# Altium schematic symbol library Digital.SchLib: 68 symbols (part 1 of 2)
Pins are listed as number, name and electrical type; pins without a type are passive.

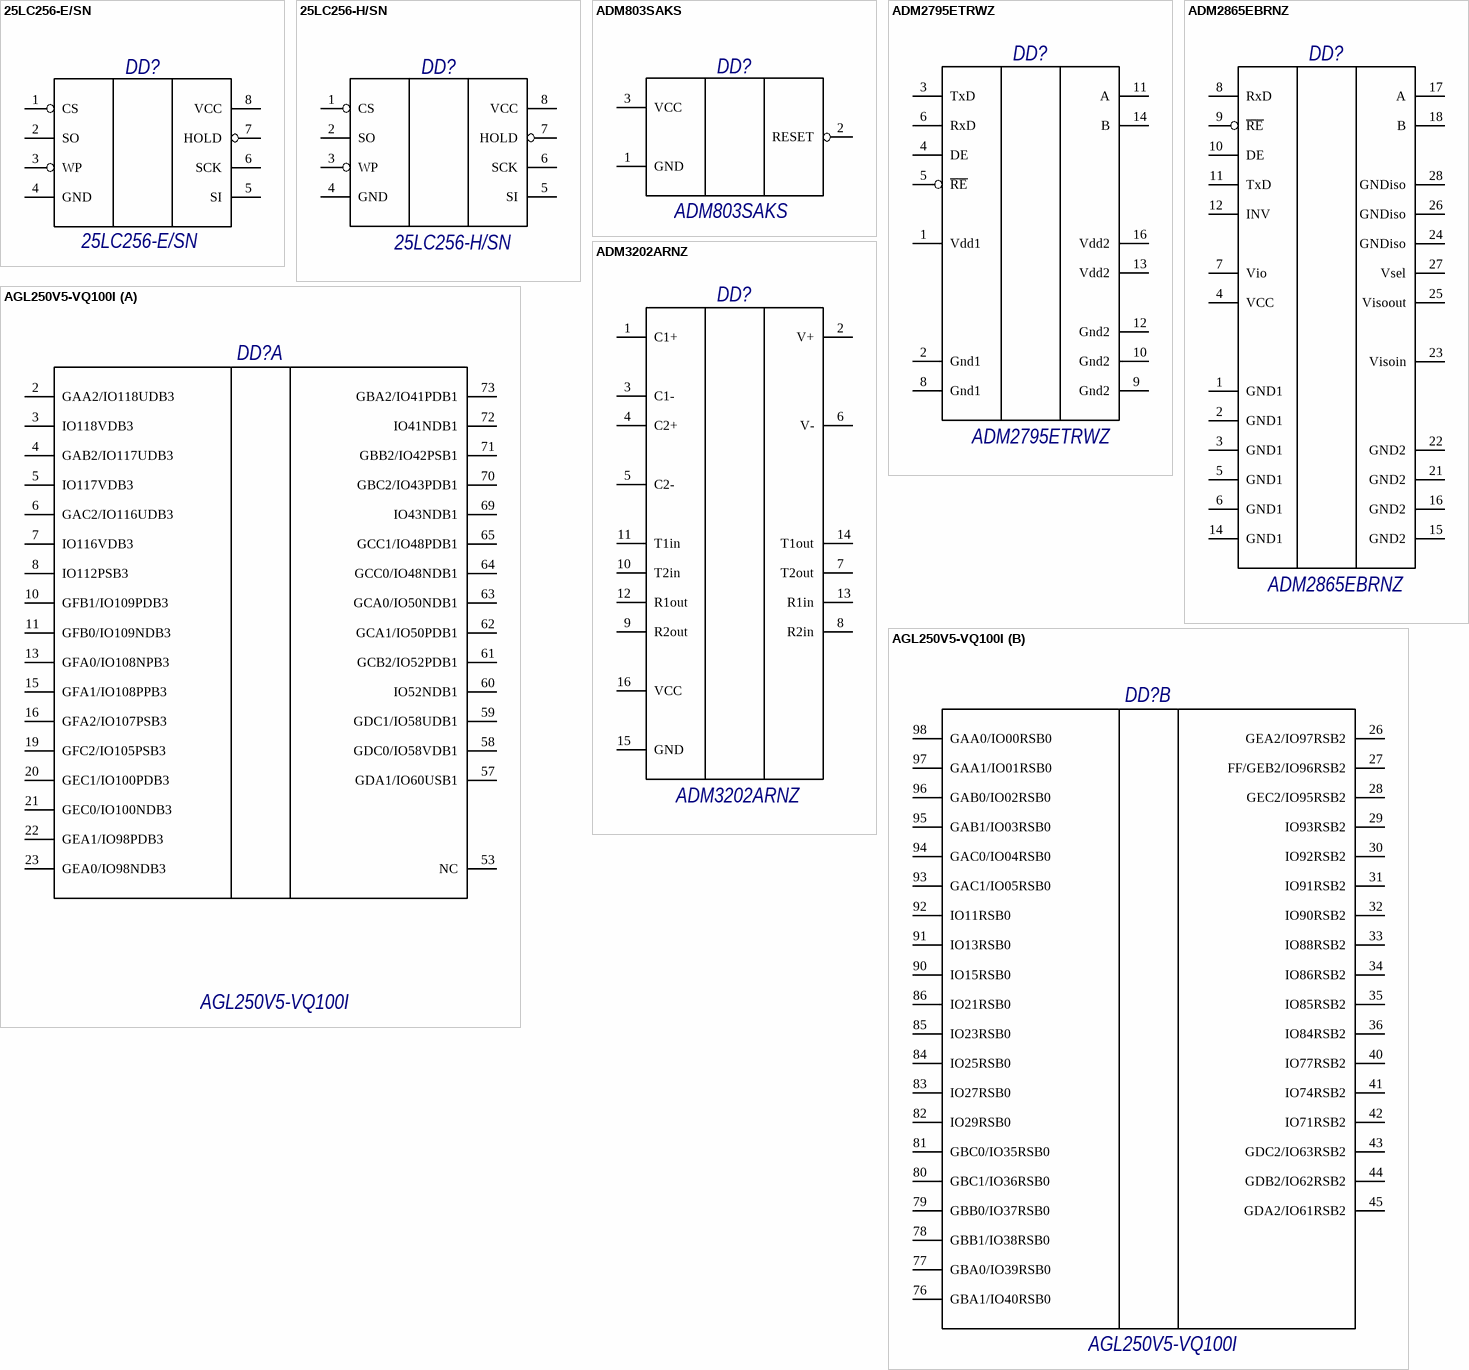
[diagram p0: symbols 25LC256-E/SN to AGL250V5-VQ100I]

## 25LC256-E/SN
designator DD?, comment PartNumber: 25LC256-E/SN  (hidden comment: Микросхема 25LC256-E/SN фирма "Microchip")
256K SPI™ Bus Serial EEPROM, 125 C, SO-8; GOST: Микросхема 25LC256-E/SN фирма "Microchip"
footprint SO-8 (5x4mm H=1.75mm)
pins: 1 CS, 2 SO, 3 WP, 4 GND, 5 SI, 6 SCK, 7 HOLD, 8 VCC

## 25LC256-H/SN
designator DD?, comment PartNumber: 25LC256-H/SN  (hidden comment: Микросхема 25LC256-H/SN фирма "Microchip")
EEPROM 256K, 32K X 8, 2.5V SER EE 150C; GOST: Микросхема 25LC256-H/SN фирма "Microchip"
footprint SO-8 (5x4mm H=1.75mm)
pins: 1 CS, 2 SO, 3 WP, 4 GND, 5 SI, 6 SCK, 7 HOLD, 8 VCC

## ADM803SAKS
designator DD?, comment PartNumber: ADM803SAKS  (hidden comment: Микросхема ADM803SAKS фирма "Analog Devices")
GOST: Микросхема ADM803SAKS фирма "Analog Devices"
footprint SC-70-3 (2.15x1.4x1.1)
pins: 1 GND, 2 RESET, 3 VCC

## ADM2795ETRWZ
designator DD?, comment PartNumber: ADM2795ETRWZ  (hidden comment: Микросхема ADM2795ETRWZ фирма "Analog Devices")
Robust 5 kV RMS Isolated RS-485/RS-422 Transceiver with Level 4 EMC and Full ±42 V Protection; Pattern: SOL-16; Manufacturer: Analog Devices; GOST: Микросхема ADM2795ETRWZ фирма "Analog Devices"
footprint SO-16 WIDE (10.5x10.65mm H=2.65mm 16-Lead Standard Small Outline Package [SOIC_W] Wide Body (RW-16 AD))
pins: 1 hidden, 1 Vdd1, 2 hidden, 2 Gnd1, 3 hidden, 3 TxD, 4 DE, 5 ~{RE}, 6 RxD, 8 Gnd1, 9 Gnd2, 10 Gnd2, 11 hidden, 11 A, 12 Gnd2, 13 Vdd2, 14 B, 16 Vdd2, 20 hidden, 21 hidden, 22 hidden, 23 hidden, 24 hidden, 26 hidden, 27 hidden, 28 hidden, 33 hidden, 38 hidden, 40 hidden, 45 hidden, 46 hidden, 47 hidden

## ADM2865EBRNZ
designator DD?, comment PartNumber: ADM2865EBRNZ  (hidden comment: Микросхема ADM2865EBRNZ фирма "Analog Devices")
5.7 kV RMS Signal andPower Isolated RS-485 Transceiver with ±15 kV IEC ESD; Pattern: 28-Lead SOIC_W_FP (RN-28-1); Manufacturer: Analog Devices; GOST: Микросхема ADM2865EBRNZ фирма "Analog Devices"
footprint SO-28_W_FP (10.45x10.55mm H=2.65mm  28-Lead Standard Small Outline, Wide Body, with Finer Pitch [SOIC_W_FP] (RN-28-1) AD)
pins: 1 hidden, 1 GND1, 2 hidden, 2 GND1, 3 hidden, 3 GND1, 4 VCC, 5 GND1, 6 GND1, 7 Vio, 8 RxD, 9 ~{RE}, 10 DE, 11 hidden, 11 TxD, 12 INV, 14 GND1, 15 GND2, 16 GND2, 17 A, 18 B, 20 hidden, 21 hidden, 21 GND2, 22 hidden, 22 GND2, 23 hidden, 23 Visoin, 24 hidden, 24 GNDiso, 25 Visoout, 26 hidden, 26 GNDiso, 27 hidden, 27 Vsel, 28 hidden, 28 GNDiso, 33 hidden, 38 hidden, 40 hidden, 45 hidden, 46 hidden, 47 hidden

## ADM3202ARNZ
designator DD?, comment PartNumber: ADM3202ARNZ  (hidden comment: Микросхема ADM3202ARNZ фирма "Analog Devices")
RS-232 High-Speed 2-Channel 3.3V; Pattern: SO-16; Manufacturer: Analog Devices; GOST: Микросхема ADM3202ARNZ фирма "Analog Devices"
footprint SO-16 (10x6.2mm H=1.75mm)
pins: 1 hidden, 1 C1+, 2 hidden, 2 V+, 3 hidden, 3 C1-, 4 C2+, 5 C2-, 6 V-, 7 T2out, 8 R2in, 9 R2out, 10 T2in, 11 hidden, 11 T1in, 12 R1out, 13 R1in, 14 T1out, 15 GND, 16 VCC, 20 hidden, 21 hidden, 22 hidden, 23 hidden, 24 hidden, 26 hidden, 27 hidden, 28 hidden, 33 hidden, 38 hidden, 40 hidden, 45 hidden, 46 hidden, 47 hidden

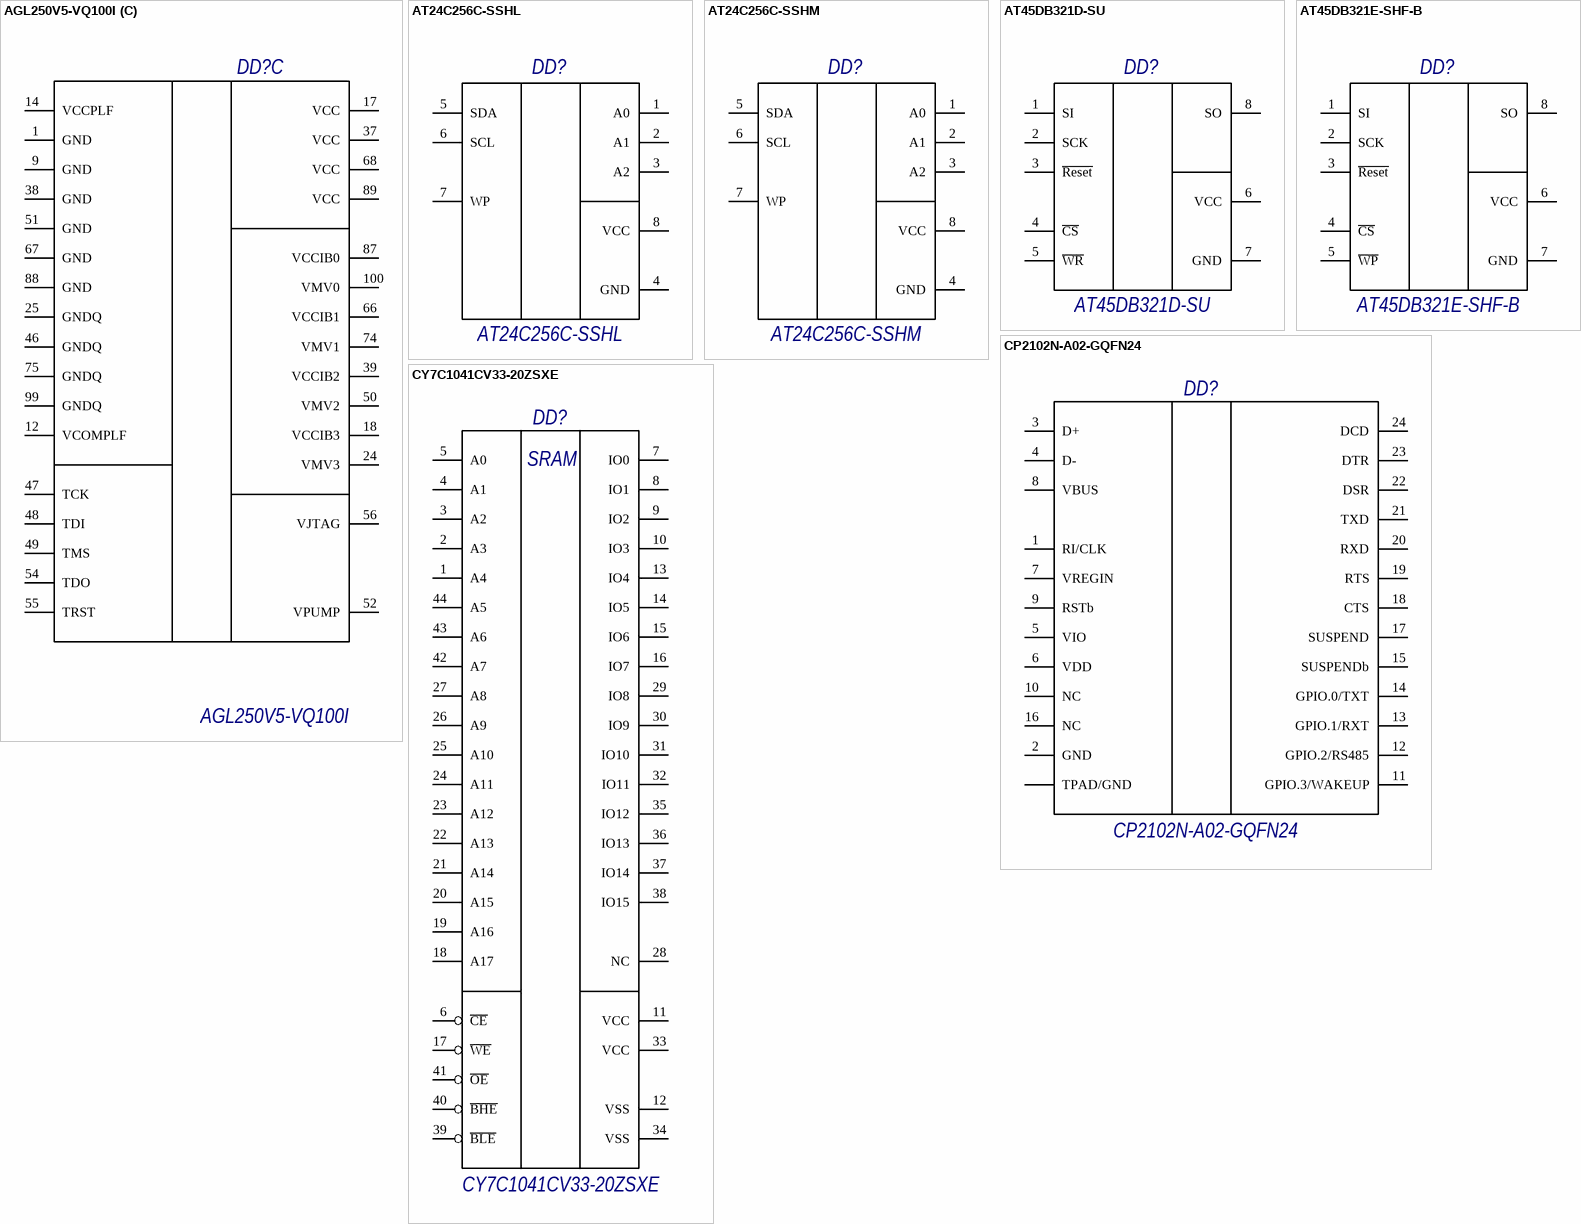
[diagram p1: symbols AGL250V5-VQ100I to CY7C1041CV33-20ZSXE]

## AGL250V5-VQ100I
designator DD?, comment PartNumber: AGL250V5-VQ100I  (hidden comment: Микросхема AGL250V5-VQ100I фирма "Actel")
FPGA, 68 I/O, 892.86 MHz, 1.5V, -40..+85; GOST: Микросхема AGL250V5-VQ100I фирма "Actel"
footprint VQ-100 (14x14mm H=1.1mm)
part A pins: 2 GAA2/IO118UDB3, 3 IO118VDB3, 4 GAB2/IO117UDB3, 5 IO117VDB3, 6 GAC2/IO116UDB3, 7 IO116VDB3, 8 IO112PSB3, 10 GFB1/IO109PDB3, 11 GFB0/IO109NDB3, 13 GFA0/IO108NPB3, 15 GFA1/IO108PPB3, 16 GFA2/IO107PSB3, 19 GFC2/IO105PSB3, 20 GEC1/IO100PDB3, 21 GEC0/IO100NDB3, 22 GEA1/IO98PDB3, 23 GEA0/IO98NDB3, 53 NC, 57 GDA1/IO60USB1, 58 GDC0/IO58VDB1, 59 GDC1/IO58UDB1, 60 IO52NDB1, 61 GCB2/IO52PDB1, 62 GCA1/IO50PDB1, 63 GCA0/IO50NDB1, 64 GCC0/IO48NDB1, 65 GCC1/IO48PDB1, 69 IO43NDB1, 70 GBC2/IO43PDB1, 71 GBB2/IO42PSB1, 72 IO41NDB1, 73 GBA2/IO41PDB1
part B pins: 26 GEA2/IO97RSB2, 27 FF/GEB2/IO96RSB2, 28 GEC2/IO95RSB2, 29 IO93RSB2, 30 IO92RSB2, 31 IO91RSB2, 32 IO90RSB2, 33 IO88RSB2, 34 IO86RSB2, 35 IO85RSB2, 36 IO84RSB2, 40 IO77RSB2, 41 IO74RSB2, 42 IO71RSB2, 43 GDC2/IO63RSB2, 44 GDB2/IO62RSB2, 45 GDA2/IO61RSB2, 76 GBA1/IO40RSB0, 77 GBA0/IO39RSB0, 78 GBB1/IO38RSB0, 79 GBB0/IO37RSB0, 80 GBC1/IO36RSB0, 81 GBC0/IO35RSB0, 82 IO29RSB0, 83 IO27RSB0, 84 IO25RSB0, 85 IO23RSB0, 86 IO21RSB0, 90 IO15RSB0, 91 IO13RSB0, 92 IO11RSB0, 93 GAC1/IO05RSB0, 94 GAC0/IO04RSB0, 95 GAB1/IO03RSB0, 96 GAB0/IO02RSB0, 97 GAA1/IO01RSB0, 98 GAA0/IO00RSB0
part C pins: 1 GND, 9 GND, 12 VCOMPLF, 14 VCCPLF, 17 VCC, 18 VCCIB3, 24 VMV3, 25 GNDQ, 37 VCC, 38 GND, 39 VCCIB2, 46 GNDQ, 47 TCK, 48 TDI, 49 TMS, 50 VMV2, 51 GND, 52 VPUMP, 54 TDO, 55 TRST, 56 VJTAG, 66 VCCIB1, 67 GND, 68 VCC, 74 VMV1, 75 GNDQ, 87 VCCIB0, 88 GND, 89 VCC, 99 GNDQ, 100 VMV0

## AT24C256C-SSHL
designator DD?, comment PartNumber: AT24C256C-SSHL  (hidden comment: Микросхема AT24C256C-SSHL фирма "Atmel")
I2C-Compatible (2-Wire) Serial EEPROM  256-Kbit (32,768 x 8); GOST: Микросхема AT24C256C-SSHL фирма "Atmel"
footprint SO-8 (8S1 Package (AD)) (Body 5x4mm H=1.75mm, 8S1, 8-lead (0.150” Wide Body), Plastic Gull Wing Small Outline (JEDEC SOIC))
pins: 1 A0, 2 A1, 3 A2, 4 GND, 5 SDA, 6 SCL, 7 WP, 8 VCC

## AT24C256C-SSHM
designator DD?, comment PartNumber: AT24C256C-SSHM  (hidden comment: Микросхема AT24C256C-SSHM фирма "Atmel")
I²C-Compatible (2-Wire)Serial EEPROM 256‑Kbit (32,768 x 8), SO-8; GOST: Микросхема AT24C256C-SSHM фирма "Atmel"
footprint SO-8 (S8 Package (AD)) (5x4mm H=1.75mm - S8 Package 8-Lead Plastic Small Outline (Narrow .150 Inch) (AD))
pins: 1 A0, 2 A1, 3 A2, 4 GND, 5 SDA, 6 SCL, 7 WP, 8 VCC

## AT45DB321D-SU
designator DD?, comment PartNumber: AT45DB321D-SU  (hidden comment: Микросхема AT45DB321D-SU фирма "Atmel")
32-megabit   2.7-3.6 volt   DataFlash; GOST: Микросхема AT45DB321D-SU фирма "Atmel"
footprint SO-8 WIDE (8S2, 8-lead, 0.208” Body, Plastic Small  Outline Package (EIAJ))
pins: 1 SI, 2 SCK, 3 ~{Reset}, 4 ~{CS}, 5 ~{WR}, 6 VCC, 7 GND, 8 SO

## AT45DB321E-SHF-B
designator DD?, comment PartNumber: AT45DB321E-SHF-B  (hidden comment: Микросхема AT45DB321E-SHF-B фирма "Adesto Technologies")
32-Mbit DataFlash (4Mx8bit) with Extra 1-Mbits (NOR), 85 MHz, 2.3V-3.6V, SPI Serial Flash Memory, -40 +85 C; GOST: Микросхема AT45DB321E-SHF-B фирма "Adesto Technologies"
footprint SO-8 WIDE (8S2, 8-lead, 0.208” Body, Plastic Small  Outline Package (EIAJ))
pins: 1 SI, 2 SCK, 3 ~{Reset}, 4 ~{CS}, 5 ~{WP}, 6 VCC, 7 GND, 8 SO

## CP2102N-A02-GQFN24
designator DD?, comment PartNumber: CP2102N-A02-GQFN24  (hidden comment: Микросхема CP2102N-A02-GQFN24 фирма "Silicon Labs")
Powerful, generic WiFi-BT-BLE MCU module. The sleep current of the ESP32 chip is less  than 5 µA, making it suitable for battery powered and wearable electronics applications. ESP-WROOM-32 supports data rates up to 150 Mbps, and 22 dBm output power at the PA to ensure the widest  physical range.; Pattern: QFN-24; Manufacturer: Silicon Labs; GOST: Микросхема CP2102N-A02-GQFN24 фирма "Silicon Labs"
footprint QFN-24 (Body 4x4mm H=0.8mm pitch 0.5mm)
pins: 1 hidden, 1 RI/CLK, 2 hidden, 2 GND, 3 hidden, 3 D+, 4 D-, 5 VIO, 6 VDD, 7 VREGIN, 8 VBUS, 9 RSTb, 10 NC, 11 hidden, 11 GPIO.3/WAKEUP, 12 GPIO.2/RS485, 13 GPIO.1/RXT, 14 GPIO.0/TXT, 15 SUSPENDb, 16 NC, 17 SUSPEND, 18 CTS, 19 RTS, 20 hidden, 20 RXD, 21 hidden, 21 TXD, 22 hidden, 22 DSR, 23 hidden, 23 DTR, 24 hidden, 24 DCD, 26 hidden, 27 hidden, 28 hidden, 33 hidden, 38 hidden, 40 hidden, 45 hidden, 46 hidden, 47 hidden, TP TPAD/GND

## CY7C1041CV33-20ZSXE
designator DD?, comment PartNumber: CY7C1041CV33-20ZSXE  (hidden comment: Микросхема CY7C1041CV33-20ZSXE фирма "Cypress Semiconductor")
4-Mbit (256 K × 16) Static RAM; PartDescription: Vcc=–0.5 V to +4.6; Pattern: 44-pin TSOP Z44-II Package Outline, 51-8508; Manufacturer: Cypress Semiconductor; GOST: Микросхема CY7C1041CV33-20ZSXE фирма "Cypress Semiconductor"
footprint TSOP2-44 (18.5x10.2(12.00)mm, pitch 0.8mm, H=1.2mm)
pins: 1 hidden, 1 A4, 2 hidden, 2 A3, 3 hidden, 3 A2, 4 A1, 5 A0, 6 ~{CE}, 7 IO0, 8 IO1, 9 IO2, 10 IO3, 11 hidden, 11 VCC, 12 VSS, 13 IO4, 14 IO5, 15 IO6, 16 IO7, 17 ~{WE}, 18 A17, 19 A16, 20 hidden, 20 A15, 21 hidden, 21 A14, 22 hidden, 22 A13, 23 hidden, 23 A12, 24 hidden, 24 A11, 25 A10, 26 hidden, 26 A9, 27 hidden, 27 A8, 28 hidden, 28 NC, 29 IO8, 30 IO9, 31 IO10, 32 IO11, 33 hidden, 33 VCC, 34 VSS, 35 IO12, 36 IO13, 37 IO14, 38 hidden, 38 IO15, 39 ~{BLE}, 40 hidden, 40 ~{BHE}, 41 ~{OE}, 42 A7, 43 A6, 44 A5, 45 hidden, 46 hidden, 47 hidden
text: SRAM

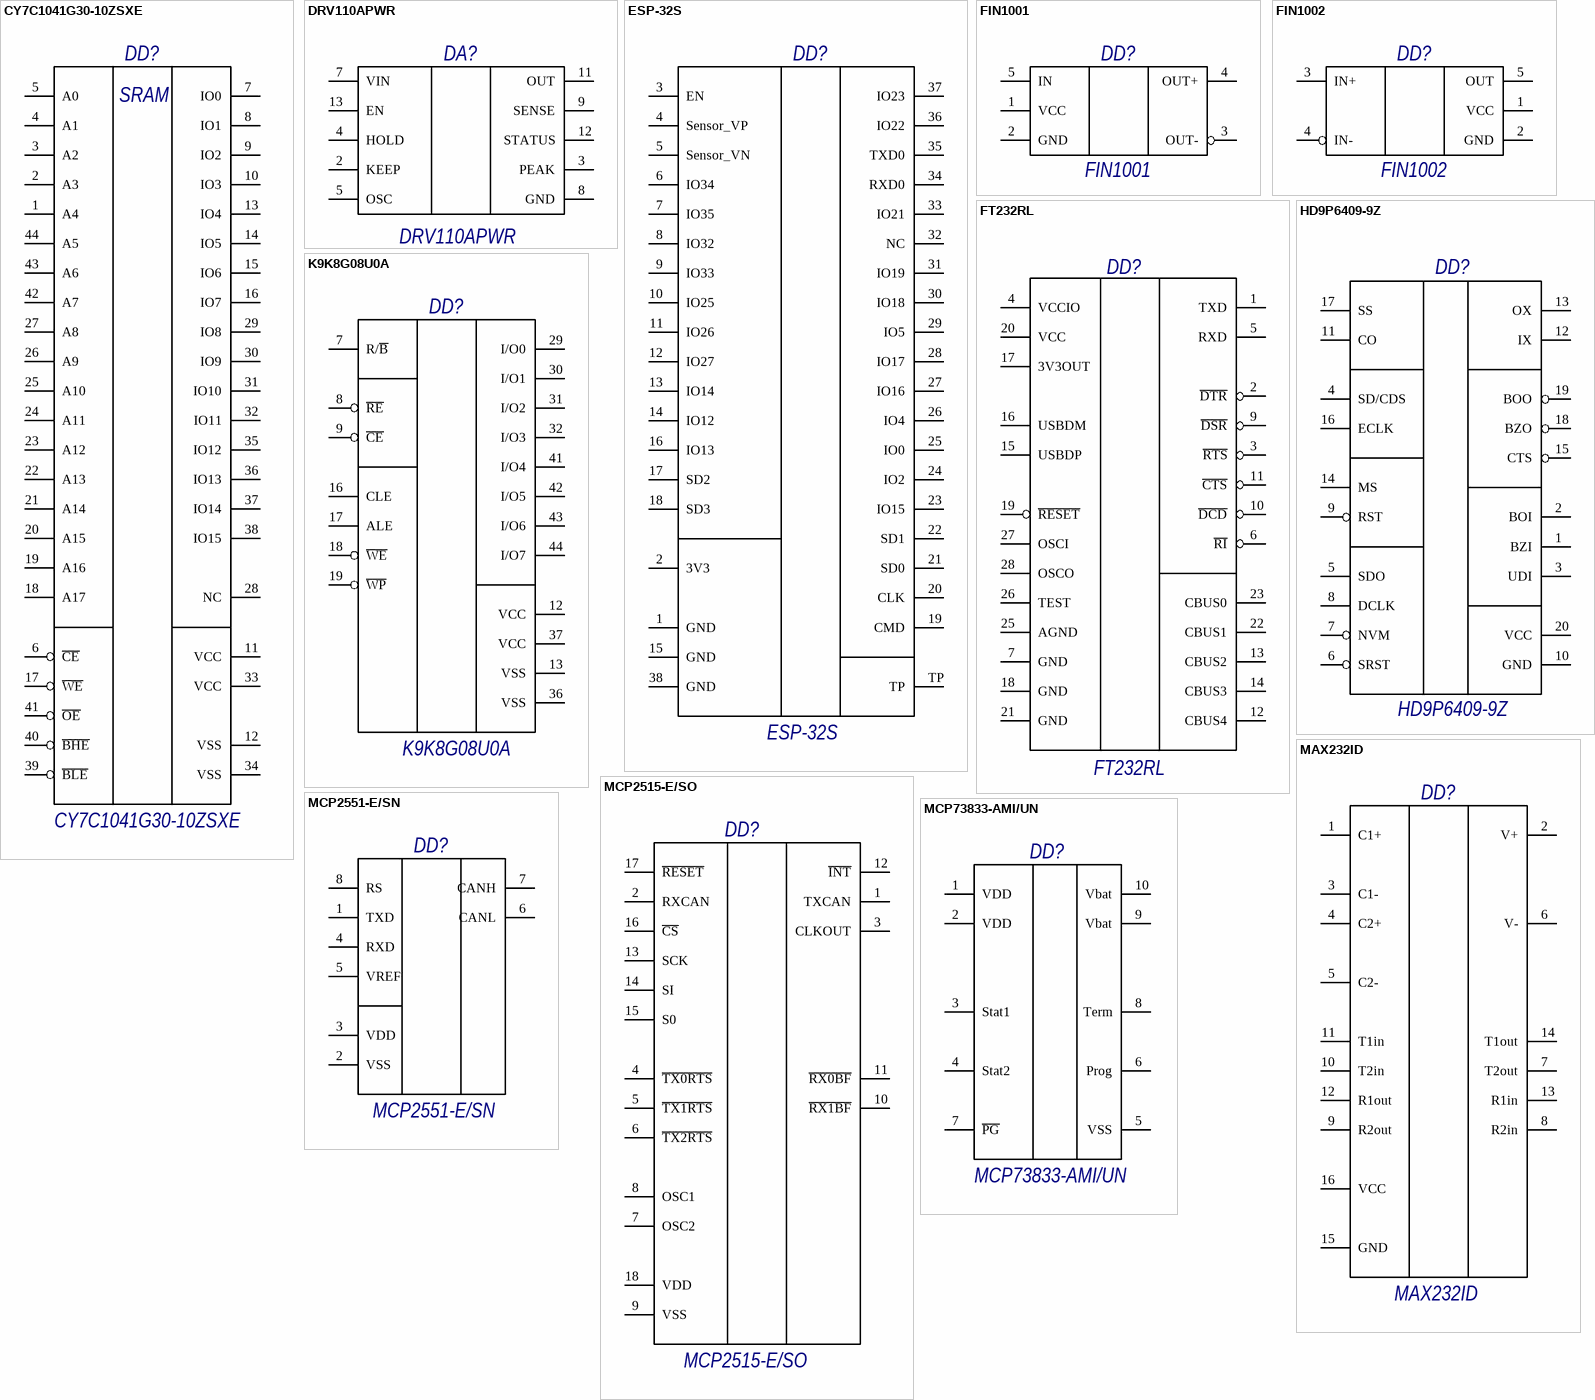
[diagram p2: symbols CY7C1041G30-10ZSXE to MCP73833-AMI/UN]

## CY7C1041G30-10ZSXE
designator DD?, comment PartNumber: CY7C1041G30-10ZSXE  (hidden comment: Микросхема CY7C1041G30-10ZSXE фирма "Cypress Semiconductor")
4-Mbit (256K words × 16-bit) Static RAM (CMOS) with Error-Correcting Code (ECC); PartDescription: Voltage Range 2.2 V–3.6 V, 10 ns,  –40 °C to 125 °C, Process Technology 65 nm; Pattern: 44-pin TSOP Z44-II Package Outline, 51-85087; Manufacturer: Cypress Semiconductor; GOST: Микросхема CY7C1041G30-10ZSXE фирма "Cypress Semiconductor"
footprint TSOP2-44 (18.5x10.2(12.00)mm, pitch 0.8mm, H=1.2mm)
pins: 1 hidden, 1 A4, 2 hidden, 2 A3, 3 hidden, 3 A2, 4 A1, 5 A0, 6 ~{CE}, 7 IO0, 8 IO1, 9 IO2, 10 IO3, 11 hidden, 11 VCC, 12 VSS, 13 IO4, 14 IO5, 15 IO6, 16 IO7, 17 ~{WE}, 18 A17, 19 A16, 20 hidden, 20 A15, 21 hidden, 21 A14, 22 hidden, 22 A13, 23 hidden, 23 A12, 24 hidden, 24 A11, 25 A10, 26 hidden, 26 A9, 27 hidden, 27 A8, 28 hidden, 28 NC, 29 IO8, 30 IO9, 31 IO10, 32 IO11, 33 hidden, 33 VCC, 34 VSS, 35 IO12, 36 IO13, 37 IO14, 38 hidden, 38 IO15, 39 ~{BLE}, 40 hidden, 40 ~{BHE}, 41 ~{OE}, 42 A7, 43 A6, 44 A5, 45 hidden, 46 hidden, 47 hidden
text: SRAM

## DRV110APWR
designator DA?, comment PartNumber: DRV110APWR  (hidden comment: Микросхема DRV110APWR фирма "Texas Instruments")
Low-Side Gate Driver IC Non-Inverting 14-TSSOP; Manufacturer: Texas Instruments; Pattern: 14-TSSOP; GOST: Микросхема DRV110APWR фирма "Texas Instruments"
footprint TSSOP-14 (TSSOP-14, 6.6x5.1mm, pitch 0.65mm, H=1.2mm)
pins: 2 KEEP, 3 PEAK, 4 HOLD, 5 OSC, 7 VIN, 8 GND, 9 SENSE, 11 OUT, 12 STATUS, 13 EN

## ESP-32S
designator DD?, comment PartNumber: ESP-32S  (hidden comment: Микросхема ESP-32S фирма "Shenzhen Anxinke Technology")
Powerful, generic WiFi-BT-BLE MCU module. The sleep current of the ESP32 chip is less  than 5 µA, making it suitable for battery powered and wearable electronics applications. ESP-WROOM-32 supports data rates up to 150 Mbps, and 22 dBm output power at the PA to ensure the widest  physical range.; Manufacturer: Shenzhen Anxinke Technology; GOST: Микросхема ESP-32S фирма "Shenzhen Anxinke Technology"
footprint ESP-32S (Body 25mm*18mm H=2.9mm Pitch 1.27mm)
pins: 1 hidden, 1 GND, 2 hidden, 2 3V3, 3 hidden, 3 EN, 4 Sensor_VP, 5 Sensor_VN, 6 IO34, 7 IO35, 8 IO32, 9 IO33, 10 IO25, 11 hidden, 11 IO26, 12 IO27, 13 IO14, 14 IO12, 15 GND, 16 IO13, 17 SD2, 18 SD3, 19 CMD, 20 hidden, 20 CLK, 21 hidden, 21 SD0, 22 hidden, 22 SD1, 23 hidden, 23 IO15, 24 hidden, 24 IO2, 25 IO0, 26 hidden, 26 IO4, 27 hidden, 27 IO16, 28 hidden, 28 IO17, 29 IO5, 30 IO18, 31 IO19, 32 NC, 33 hidden, 33 IO21, 34 RXD0, 35 TXD0, 36 IO22, 37 IO23, 38 hidden, 38 GND, 40 hidden, 45 hidden, 46 hidden, 47 hidden, TP

## FIN1001
designator DD?, comment PartNumber: FIN1001  (hidden comment: Микросхема FIN1001 фирма "ON Semiconductor")
3.3V LVDS 1-Bit High Speed Differential Driver; Pattern: SOT-23-5; Manufacturer: ON Semiconductor; GOST: Микросхема FIN1001 фирма "ON Semiconductor"
footprint SOT-23-5
pins: 1 VCC, 2 GND, 3 OUT-, 4 OUT+, 5 IN

## FIN1002
designator DD?, comment PartNumber: FIN1002  (hidden comment: Микросхема FIN1002 фирма "ON Semiconductor")
LVDS 1-Bit High Speed Differential Receiver; Pattern: SOT-23-5; Manufacturer: ON Semiconductor; GOST: Микросхема FIN1002 фирма "ON Semiconductor"
footprint SOT-23-5
pins: 1 VCC, 2 GND, 3 IN+, 4 IN-, 5 OUT

## FT232RL
designator DD?, comment PartNumber: FT232RL  (hidden comment: Микросхема FT232RL фирма "FTDI Chip")
USB UART; GOST: Микросхема FT232RL фирма "FTDI Chip"
footprint SSOP-28-FT232RL (Корпус 10.2x5.6mm Pitch 0.65mm H=2.0mm)
pins: 1 TXD, 2 ~{DTR}, 3 ~{RTS}, 4 VCCIO, 5 RXD, 6 ~{RI}, 7 GND, 9 ~{DSR}, 10 ~{DCD}, 11 ~{CTS}, 12 CBUS4, 13 CBUS2, 14 CBUS3, 15 USBDP, 16 USBDM, 17 3V3OUT, 18 GND, 19 ~{RESET}, 20 VCC, 21 GND, 22 CBUS1, 23 CBUS0, 25 AGND, 26 TEST, 27 OSCI, 28 OSCO

## HD9P6409-9Z
designator DD?, comment PartNumber: HD9P6409-9Z  (hidden comment: Микросхема HD9P6409-9Z фирма "Renesas")
Manchester Encoder/Decoder 20-SOIC; GOST: Микросхема HD9P6409-9Z фирма "Renesas"
footprint SO-20 Wide (13x10.65mm H=2.65mm)
pins: 1 BZI, 2 BOI, 3 UDI, 4 SD/CDS, 5 SDO, 6 SRST, 7 NVM, 8 DCLK, 9 RST, 10 GND, 11 CO, 12 IX, 13 OX, 14 MS, 15 CTS, 16 ECLK, 17 SS, 18 BZO, 19 BOO, 20 VCC

## K9K8G08U0A
designator DD?, comment PartNumber: K9K8G08U0A  (hidden comment: Микросхема K9K8G08U0A фирма "Samsung")
1G x 8 Bit / 2G x 8 Bit NAND Flash Memory, 2.7-3.6V VCC; Manufacturer: Sumsung; PartDescription: Vcc=2,7-3,6V; Pattern: TSSOP1-48; GOST: Микросхема K9K8G08U0A фирма "Samsung"
footprint TSSOP1-48
pins: 1 hidden, 2 hidden, 3 hidden, 7 R/~{B}, 8 ~{RE}, 9 ~{CE}, 11 hidden, 12 VCC, 13 VSS, 16 CLE, 17 ALE, 18 ~{WE}, 19 ~{WP}, 20 hidden, 21 hidden, 22 hidden, 23 hidden, 24 hidden, 26 hidden, 27 hidden, 28 hidden, 29 I/O0, 30 I/O1, 31 I/O2, 32 I/O3, 33 hidden, 36 VSS, 37 VCC, 38 hidden, 40 hidden, 41 I/O4, 42 I/O5, 43 I/O6, 44 I/O7, 45 hidden, 46 hidden, 47 hidden

## MAX232ID
designator DD?, comment PartNumber: MAX232ID  (hidden comment: Микросхема MAX232ID фирма "Texas Instruments")
Dual EIA-232 Drivers/Receivers; Pattern: SO-16; Manufacturer: Texas Instruments; GOST: Микросхема MAX232ID фирма "Texas Instruments"
footprint D (R-PDSO-G16) (10x6.2mm H=1.75mm (SO-16) TI)
pins: 1 hidden, 1 C1+, 2 hidden, 2 V+, 3 hidden, 3 C1-, 4 C2+, 5 C2-, 6 V-, 7 T2out, 8 R2in, 9 R2out, 10 T2in, 11 hidden, 11 T1in, 12 R1out, 13 R1in, 14 T1out, 15 GND, 16 VCC, 20 hidden, 21 hidden, 22 hidden, 23 hidden, 24 hidden, 26 hidden, 27 hidden, 28 hidden, 33 hidden, 38 hidden, 40 hidden, 45 hidden, 46 hidden, 47 hidden

## MCP2515-E/SO
designator DD?, comment PartNumber: MCP2515-E/SO  (hidden comment: Микросхема MCP2515-E/SO фирма "Microchip")
Stand-Alone CAN Controller With SPI Interface, 18-Pin SOIC, Extended Temperature; Pattern: SO-16 Wide; Manufacturer: Microchip; GOST: Микросхема MCP2515-E/SO фирма "Microchip"
footprint SO-18 Wide (11.55x10.32mm H=2.65mm)
pins: 1 hidden, 1 TXCAN, 2 hidden, 2 RXCAN, 3 hidden, 3 CLKOUT, 4 ~{TX0RTS}, 5 ~{TX1RTS}, 6 ~{TX2RTS}, 7 OSC2, 8 OSC1, 9 VSS, 10 ~{RX1BF}, 11 hidden, 11 ~{RX0BF}, 12 ~{INT}, 13 SCK, 14 SI, 15 S0, 16 ~{CS}, 17 ~{RESET}, 18 VDD, 20 hidden, 21 hidden, 22 hidden, 23 hidden, 24 hidden, 26 hidden, 27 hidden, 28 hidden, 33 hidden, 38 hidden, 40 hidden, 45 hidden, 46 hidden, 47 hidden

## MCP2551-E/SN
designator DD?, comment PartNumber: MCP2551-E/SN  (hidden comment: Микросхема MCP2551-E/SN фирма "Microchip")
High-Speed CAN Transceiver, 8-Pin SOIC, Extended Temperature; Pattern: SO-8; Manufacturer: Microchip; GOST: Микросхема MCP2551-E/SN фирма "Microchip"
footprint SO-8 (5x4mm H=1.75mm)
pins: 1 hidden, 1 TXD, 2 hidden, 2 VSS, 3 hidden, 3 VDD, 4 RXD, 5 VREF, 6 CANL, 7 CANH, 8 RS, 11 hidden, 20 hidden, 21 hidden, 22 hidden, 23 hidden, 24 hidden, 26 hidden, 27 hidden, 28 hidden, 33 hidden, 38 hidden, 40 hidden, 45 hidden, 46 hidden, 47 hidden

## MCP73833-AMI/UN
designator DD?, comment PartNumber: MCP73833-AMI/UN  (hidden comment: Микросхема MCP73833-AMI/UN фирма "Microchip")
Stand-Alone Linear Li-Ion / Li-Polymer Charge  Management Controller; Pattern: MSOP-10; Manufacturer: Microchip; GOST: Микросхема MCP73833-AMI/UN фирма "Microchip"
footprint MSOP-10 (3.1x3.1mm H=1.1mm)
pins: 1 hidden, 1 VDD, 2 hidden, 2 VDD, 3 hidden, 3 Stat1, 4 Stat2, 5 VSS, 6 Prog, 7 ~{PG}, 8 Term, 9 Vbat, 10 Vbat, 11 hidden, 20 hidden, 21 hidden, 22 hidden, 23 hidden, 24 hidden, 26 hidden, 27 hidden, 28 hidden, 33 hidden, 38 hidden, 40 hidden, 45 hidden, 46 hidden, 47 hidden

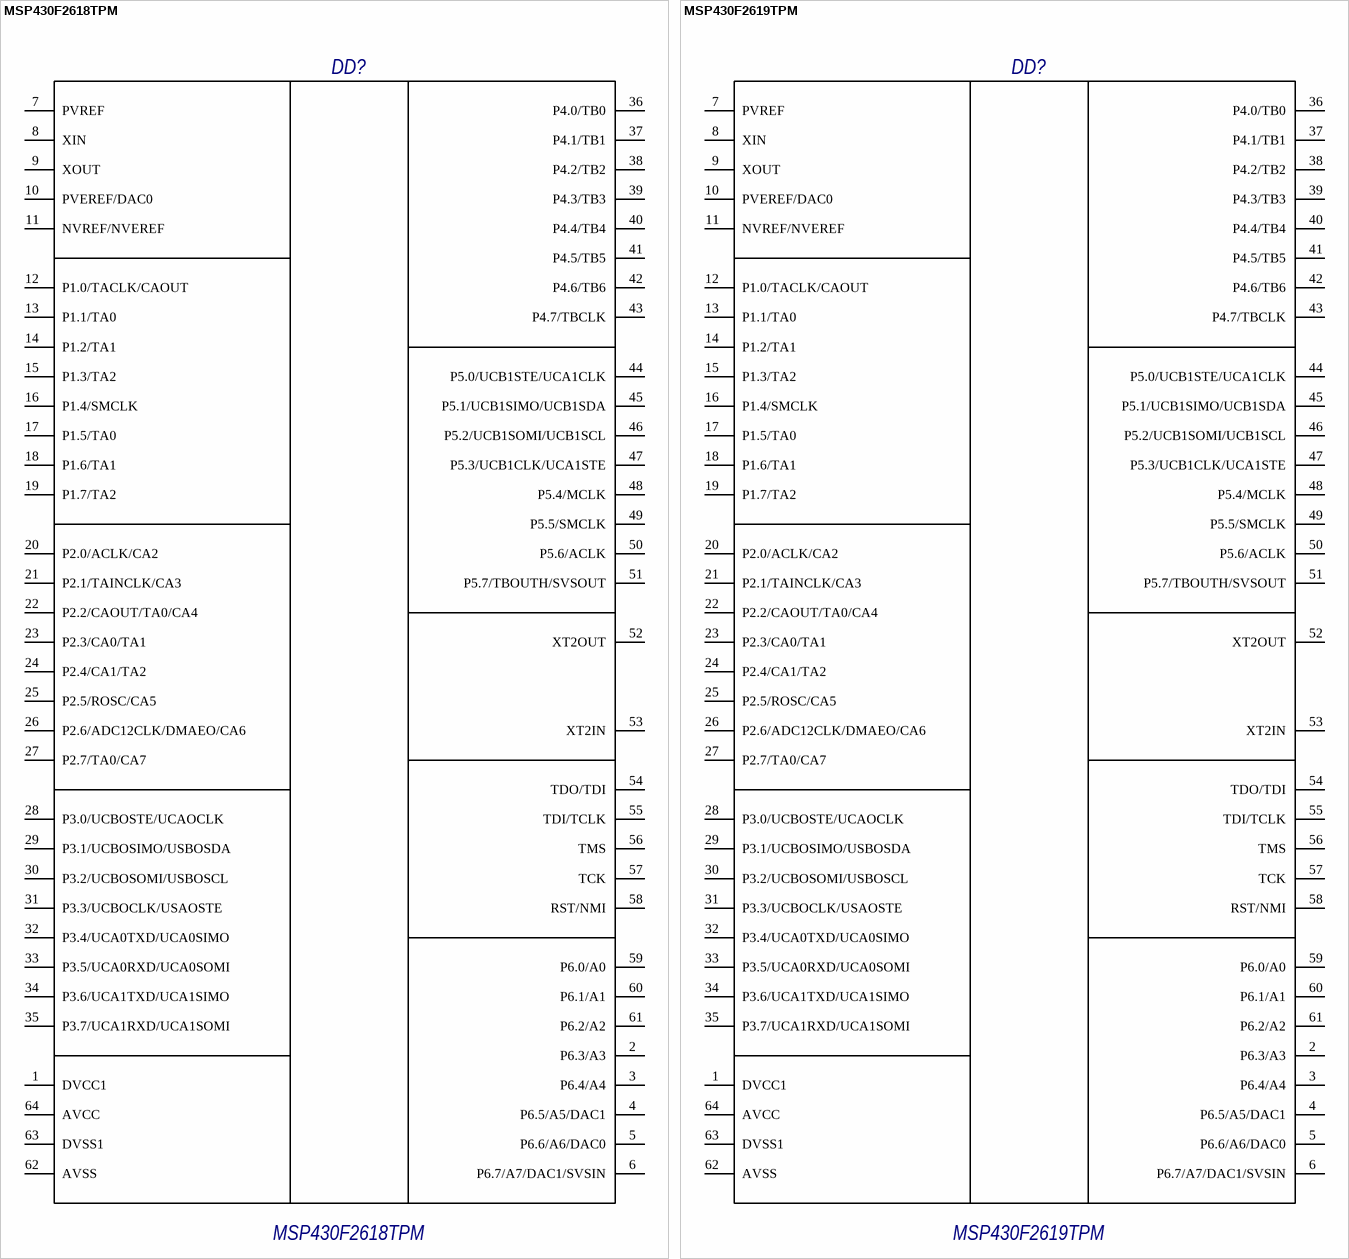
[diagram p3: symbols MSP430F2618TPM to MSP430F2619TPM]

## MSP430F2618TPM
designator DD?, comment PartNumber: MSP430F2618TPM  (hidden comment: Микросхема MSP430F2618TPM фирма "Texas Instruments")
16-Bit Ultra-Low-Power MCU, 116kB Flash, 8KB RAM, 12-Bit ADC, Dual DAC, 2 USCI, HW Mult, DMA; GOST: Микросхема MSP430F2618TPM фирма "Texas Instruments"
footprint PM (S-PQFP-G64) (10x10mm H=1.6mm  (LQFP-64))
pins: 1 DVCC1, 2 P6.3/A3, 3 P6.4/A4, 4 P6.5/A5/DAC1, 5 P6.6/A6/DAC0, 6 P6.7/A7/DAC1/SVSIN, 7 PVREF, 8 XIN, 9 XOUT, 10 PVEREF/DAC0, 11 NVREF/NVEREF, 12 P1.0/TACLK/CAOUT, 13 P1.1/TA0, 14 P1.2/TA1, 15 P1.3/TA2, 16 P1.4/SMCLK, 17 P1.5/TA0, 18 P1.6/TA1, 19 P1.7/TA2, 20 P2.0/ACLK/CA2, 21 P2.1/TAINCLK/CA3, 22 P2.2/CAOUT/TA0/CA4, 23 P2.3/CA0/TA1, 24 P2.4/CA1/TA2, 25 P2.5/ROSC/CA5, 26 P2.6/ADC12CLK/DMAEO/CA6, 27 P2.7/TA0/CA7, 28 P3.0/UCBOSTE/UCAOCLK, 29 P3.1/UCBOSIMO/USBOSDA, 30 P3.2/UCBOSOMI/USBOSCL, 31 P3.3/UCBOCLK/USAOSTE, 32 P3.4/UCA0TXD/UCA0SIMO, 33 P3.5/UCA0RXD/UCA0SOMI, 34 P3.6/UCA1TXD/UCA1SIMO, 35 P3.7/UCA1RXD/UCA1SOMI, 36 P4.0/TB0, 37 P4.1/TB1, 38 P4.2/TB2, 39 P4.3/TB3, 40 P4.4/TB4, 41 P4.5/TB5, 42 P4.6/TB6, 43 P4.7/TBCLK, 44 P5.0/UCB1STE/UCA1CLK, 45 P5.1/UCB1SIMO/UCB1SDA, 46 P5.2/UCB1SOMI/UCB1SCL, 47 P5.3/UCB1CLK/UCA1STE, 48 P5.4/MCLK, 49 P5.5/SMCLK, 50 P5.6/ACLK, 51 P5.7/TBOUTH/SVSOUT, 52 XT2OUT, 53 XT2IN, 54 TDO/TDI, 55 TDI/TCLK, 56 TMS, 57 TCK, 58 RST/NMI, 59 P6.0/A0, 60 P6.1/A1, 61 P6.2/A2, 62 AVSS, 63 DVSS1, 64 AVCC

## MSP430F2619TPM
designator DD?, comment PartNumber: MSP430F2619TPM  (hidden comment: Микросхема MSP430F2619TPM фирма "Texas Instruments")
MIXED  SIGNAL  MICROCONTROLLER; GOST: Микросхема MSP430F2619TPM фирма "Texas Instruments"
footprint PM (S-PQFP-G64) (10x10mm H=1.6mm  (LQFP-64))
pins: 1 DVCC1, 2 P6.3/A3, 3 P6.4/A4, 4 P6.5/A5/DAC1, 5 P6.6/A6/DAC0, 6 P6.7/A7/DAC1/SVSIN, 7 PVREF, 8 XIN, 9 XOUT, 10 PVEREF/DAC0, 11 NVREF/NVEREF, 12 P1.0/TACLK/CAOUT, 13 P1.1/TA0, 14 P1.2/TA1, 15 P1.3/TA2, 16 P1.4/SMCLK, 17 P1.5/TA0, 18 P1.6/TA1, 19 P1.7/TA2, 20 P2.0/ACLK/CA2, 21 P2.1/TAINCLK/CA3, 22 P2.2/CAOUT/TA0/CA4, 23 P2.3/CA0/TA1, 24 P2.4/CA1/TA2, 25 P2.5/ROSC/CA5, 26 P2.6/ADC12CLK/DMAEO/CA6, 27 P2.7/TA0/CA7, 28 P3.0/UCBOSTE/UCAOCLK, 29 P3.1/UCBOSIMO/USBOSDA, 30 P3.2/UCBOSOMI/USBOSCL, 31 P3.3/UCBOCLK/USAOSTE, 32 P3.4/UCA0TXD/UCA0SIMO, 33 P3.5/UCA0RXD/UCA0SOMI, 34 P3.6/UCA1TXD/UCA1SIMO, 35 P3.7/UCA1RXD/UCA1SOMI, 36 P4.0/TB0, 37 P4.1/TB1, 38 P4.2/TB2, 39 P4.3/TB3, 40 P4.4/TB4, 41 P4.5/TB5, 42 P4.6/TB6, 43 P4.7/TBCLK, 44 P5.0/UCB1STE/UCA1CLK, 45 P5.1/UCB1SIMO/UCB1SDA, 46 P5.2/UCB1SOMI/UCB1SCL, 47 P5.3/UCB1CLK/UCA1STE, 48 P5.4/MCLK, 49 P5.5/SMCLK, 50 P5.6/ACLK, 51 P5.7/TBOUTH/SVSOUT, 52 XT2OUT, 53 XT2IN, 54 TDO/TDI, 55 TDI/TCLK, 56 TMS, 57 TCK, 58 RST/NMI, 59 P6.0/A0, 60 P6.1/A1, 61 P6.2/A2, 62 AVSS, 63 DVSS1, 64 AVCC

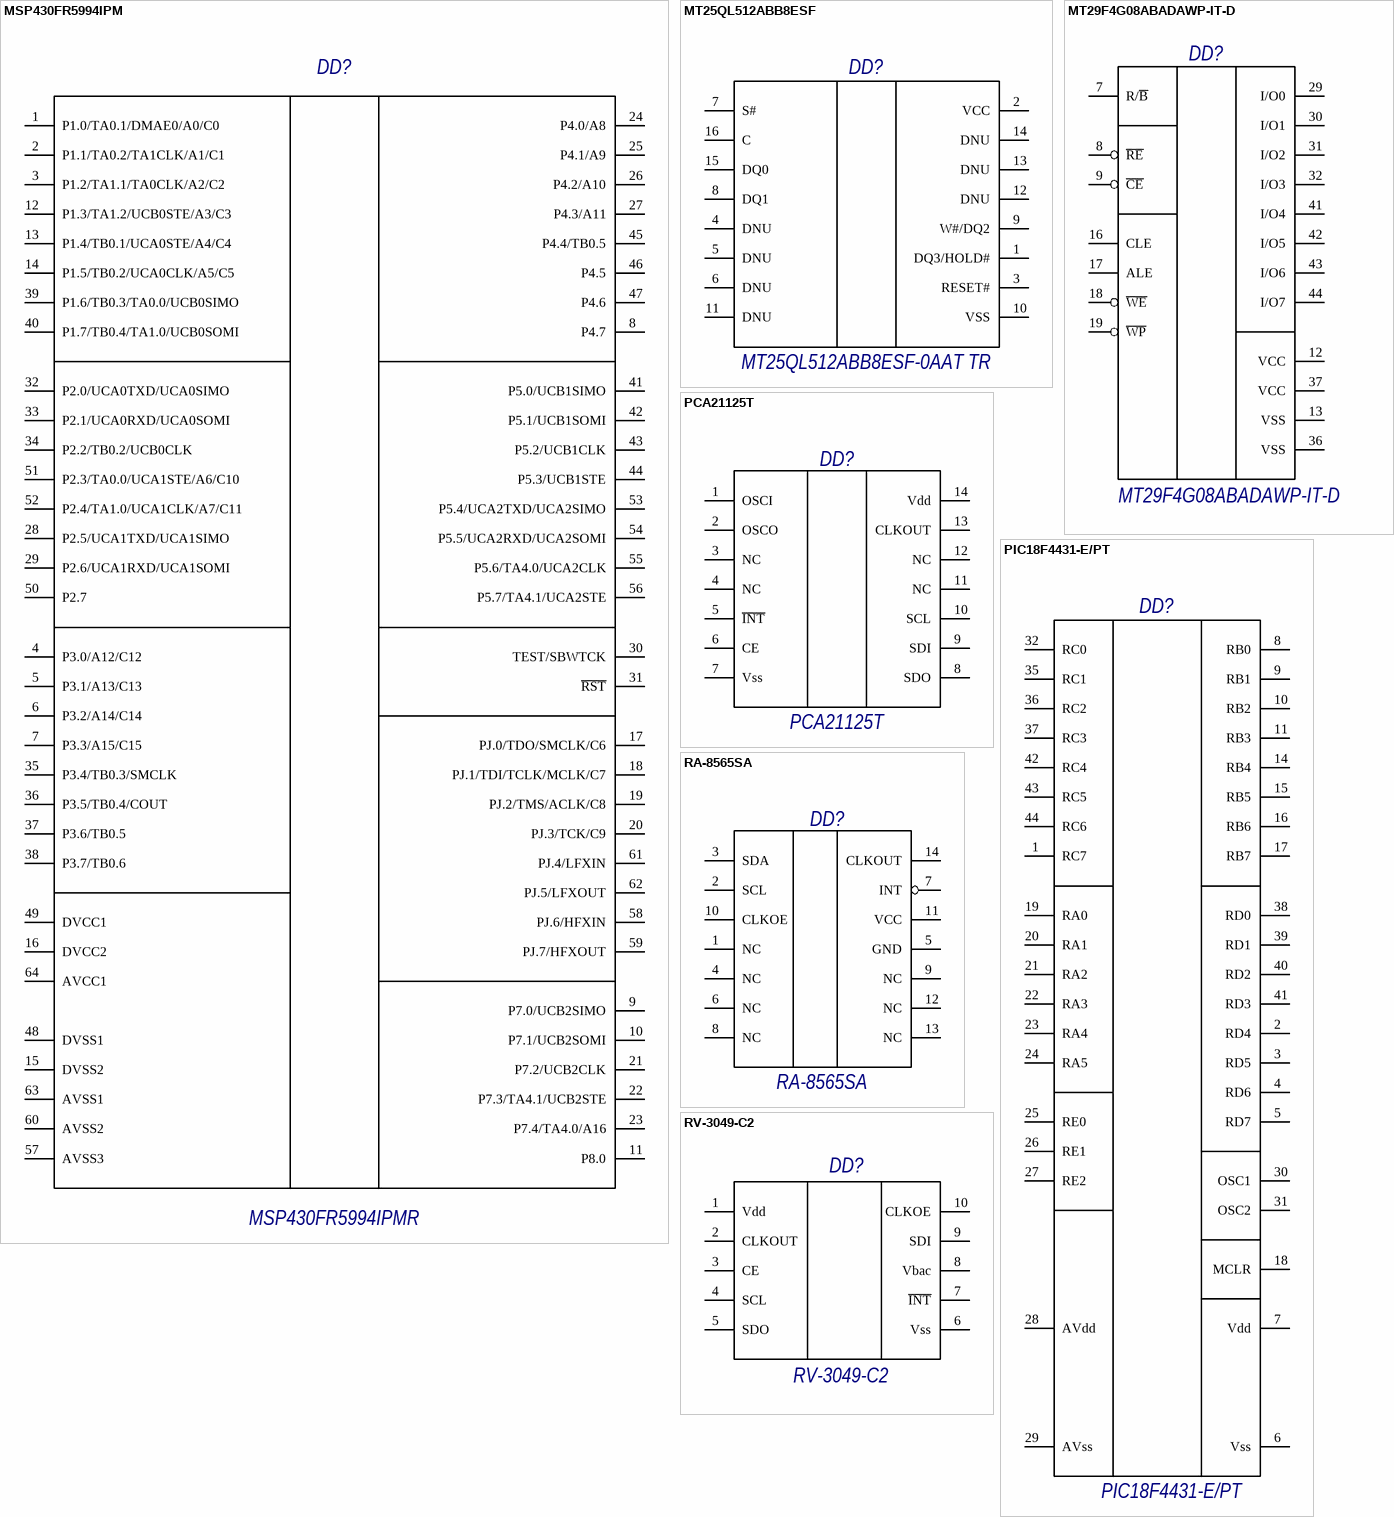
[diagram p4: symbols MSP430FR5994IPM to RV-3049-C2]

## MSP430FR5994IPM
designator DD?, comment PartNumber: MSP430FR5994IPMR  (hidden comment: Микросхема MSP430FR5994IPMR фирма "Texas Instruments")
IC MCU 16BIT 256KB FRAM 64LQFP; GOST: Микросхема MSP430FR5994IPMR фирма "Texas Instruments"
footprint PM (S-PQFP-G64) (10x10mm H=1.6mm  (LQFP-64))
pins: 1 P1.0/TA0.1/DMAE0/A0/C0, 2 P1.1/TA0.2/TA1CLK/A1/C1, 3 P1.2/TA1.1/TA0CLK/A2/C2, 4 P3.0/A12/C12, 5 P3.1/A13/C13, 6 P3.2/A14/C14, 7 P3.3/A15/C15, 8 P4.7, 9 P7.0/UCB2SIMO, 10 P7.1/UCB2SOMI, 11 P8.0, 12 P1.3/TA1.2/UCB0STE/A3/C3, 13 P1.4/TB0.1/UCA0STE/A4/C4, 14 P1.5/TB0.2/UCA0CLK/A5/C5, 15 DVSS2, 16 DVCC2, 17 PJ.0/TDO/SMCLK/C6, 18 PJ.1/TDI/TCLK/MCLK/C7, 19 PJ.2/TMS/ACLK/C8, 20 PJ.3/TCK/C9, 21 P7.2/UCB2CLK, 22 P7.3/TA4.1/UCB2STE, 23 P7.4/TA4.0/A16, 24 P4.0/A8, 25 P4.1/A9, 26 P4.2/A10, 27 P4.3/A11, 28 P2.5/UCA1TXD/UCA1SIMO, 29 P2.6/UCA1RXD/UCA1SOMI, 30 TEST/SBWTCK, 31 ~{RST}, 32 P2.0/UCA0TXD/UCA0SIMO, 33 P2.1/UCA0RXD/UCA0SOMI, 34 P2.2/TB0.2/UCB0CLK, 35 P3.4/TB0.3/SMCLK, 36 P3.5/TB0.4/COUT, 37 P3.6/TB0.5, 38 P3.7/TB0.6, 39 P1.6/TB0.3/TA0.0/UCB0SIMO, 40 P1.7/TB0.4/TA1.0/UCB0SOMI, 41 P5.0/UCB1SIMO, 42 P5.1/UCB1SOMI, 43 P5.2/UCB1CLK, 44 P5.3/UCB1STE, 45 P4.4/TB0.5, 46 P4.5, 47 P4.6, 48 DVSS1, 49 DVCC1, 50 P2.7, 51 P2.3/TA0.0/UCA1STE/A6/C10, 52 P2.4/TA1.0/UCA1CLK/A7/C11, 53 P5.4/UCA2TXD/UCA2SIMO, 54 P5.5/UCA2RXD/UCA2SOMI, 55 P5.6/TA4.0/UCA2CLK, 56 P5.7/TA4.1/UCA2STE, 57 AVSS3, 58 PJ.6/HFXIN, 59 PJ.7/HFXOUT, 60 AVSS2, 61 PJ.4/LFXIN, 62 PJ.5/LFXOUT, 63 AVSS1, 64 AVCC1

## MT25QL512ABB8ESF
designator DD?, comment PartNumber: MT25QL512ABB8ESF-0AAT TR  (hidden comment: Микросхема MT25QL512ABB8ESF-0AAT TR фирма "Micron")
FLASH - NOR Memory IC 512Mb (64M x 8) SPI 133MHz 16-SO; Value: *; GOST: Микросхема MT25QL512ABB8ESF-0AAT TR фирма "Micron"
footprint SOP2-16 (10.5x10.65mm H=2.65mm Wide body (SOL-16))
pins: 1 DQ3/HOLD#, 2 VCC, 3 RESET#, 4 DNU, 5 DNU, 6 DNU, 7 S#, 8 DQ1, 9 W#/DQ2, 10 VSS, 11 DNU, 12 DNU, 13 DNU, 14 DNU, 15 DQ0, 16 C

## MT29F4G08ABADAWP-IT-D
designator DD?, comment PartNumber: MT29F4G08ABADAWP-IT-D  (hidden comment: Микросхема MT29F4G08ABADAWP-IT-D фирма "Micron")
NAND Flash Memory 1G x 8 Bit / 2G x 8 Bit, 2.7-3.6V VCC; Manufacturer: Micron; PartDescription: Vcc=2,7-3,6V; Pattern: TSSOP1-48; GOST: Микросхема MT29F4G08ABADAWP-IT-D фирма "Micron"
footprint TSSOP1-48
pins: 1 hidden, 2 hidden, 3 hidden, 7 R/~{B}, 8 ~{RE}, 9 ~{CE}, 11 hidden, 12 VCC, 13 VSS, 16 CLE, 17 ALE, 18 ~{WE}, 19 ~{WP}, 20 hidden, 21 hidden, 22 hidden, 23 hidden, 24 hidden, 26 hidden, 27 hidden, 28 hidden, 29 I/O0, 30 I/O1, 31 I/O2, 32 I/O3, 33 hidden, 36 VSS, 37 VCC, 38 hidden, 40 hidden, 41 I/O4, 42 I/O5, 43 I/O6, 44 I/O7, 45 hidden, 46 hidden, 47 hidden

## PCA21125T
designator DD?, comment PartNumber: PCA21125T  (hidden comment: Микросхема PCA21125T фирма "NXP Semiconductors")
SPI-bus Real-Time Clock and calendar, 125C, TSSOP-14; GOST: Микросхема PCA21125T фирма "NXP Semiconductors"
footprint TSSOP-14 (TSSOP-14, 6.6x5.1mm, pitch 0.65mm, H=1.2mm)
pins: 1 OSCI, 2 OSCO, 3 NC, 4 NC, 5 ~{INT}, 6 CE, 7 Vss, 8 SDO, 9 SDI, 10 SCL, 11 NC, 12 NC, 13 CLKOUT, 14 Vdd

## PIC18F4431-E/PT
designator DD?, comment PartNumber: PIC18F4431-E/PT  (hidden comment: Микросхема PIC18F4431-E/PT фирма "Microchip Technology")
Enhanced Flash Microcontrollers with nanoWatt Technology,High-Performance PWM and A/D; GOST: Микросхема PIC18F4431-E/PT фирма "Microchip Technology"
footprint TQFP-44 (10x10mm H=1.05mm Pitch=0.8mm)
pins: 1 RC7, 2 RD4, 3 RD5, 4 RD6, 5 RD7, 6 Vss, 7 Vdd, 8 RB0, 9 RB1, 10 RB2, 11 RB3, 14 RB4, 15 RB5, 16 RB6, 17 RB7, 18 MCLR, 19 RA0, 20 RA1, 21 RA2, 22 RA3, 23 RA4, 24 RA5, 25 RE0, 26 RE1, 27 RE2, 28 AVdd, 29 AVss, 30 OSC1, 31 OSC2, 32 RC0, 35 RC1, 36 RC2, 37 RC3, 38 RD0, 39 RD1, 40 RD2, 41 RD3, 42 RC4, 43 RC5, 44 RC6

## RA-8565SA
designator DD?, comment PartNumber: RA-8565SA  (hidden comment: Микросхема RA-8565SA фирма "Epson Toyocom")
Extended operating temperature range : −40 °C to +125 °C I2C-Bus Interface Real Time Clock Module; GOST: Микросхема RA-8565SA фирма "Epson Toyocom"; Temperature Range: -40 +125 °C
footprint SOP-14 (RA-8565SA) (Size 10.1x7.4mm H=3.2mm The cylinder of the crystal oscillator can be seen in this area ( front ), but it has no affect on the performance of the device.)
pins: 1 NC, 2 SCL, 3 SDA, 4 NC, 5 GND, 6 NC, 7 INT, 8 NC, 9 NC, 10 CLKOE, 11 VСС, 12 NC, 13 NC, 14 CLKOUT

## RV-3049-C2
designator DD?, comment PartNumber: RV-3049-C2  (hidden comment: Микросхема RV-3049-C2 фирма "Micro crystal")
Real-Time Clock Module with SPI-Bus; GOST: Микросхема RV-3049-C2 фирма "Micro crystal"
footprint RV-3049-C2
pins: 1 Vdd, 2 CLKOUT, 3 CE, 4 SCL, 5 SDO, 6 Vss, 7 ~{INT}, 8 Vbac, 9 SDI, 10 CLKOE

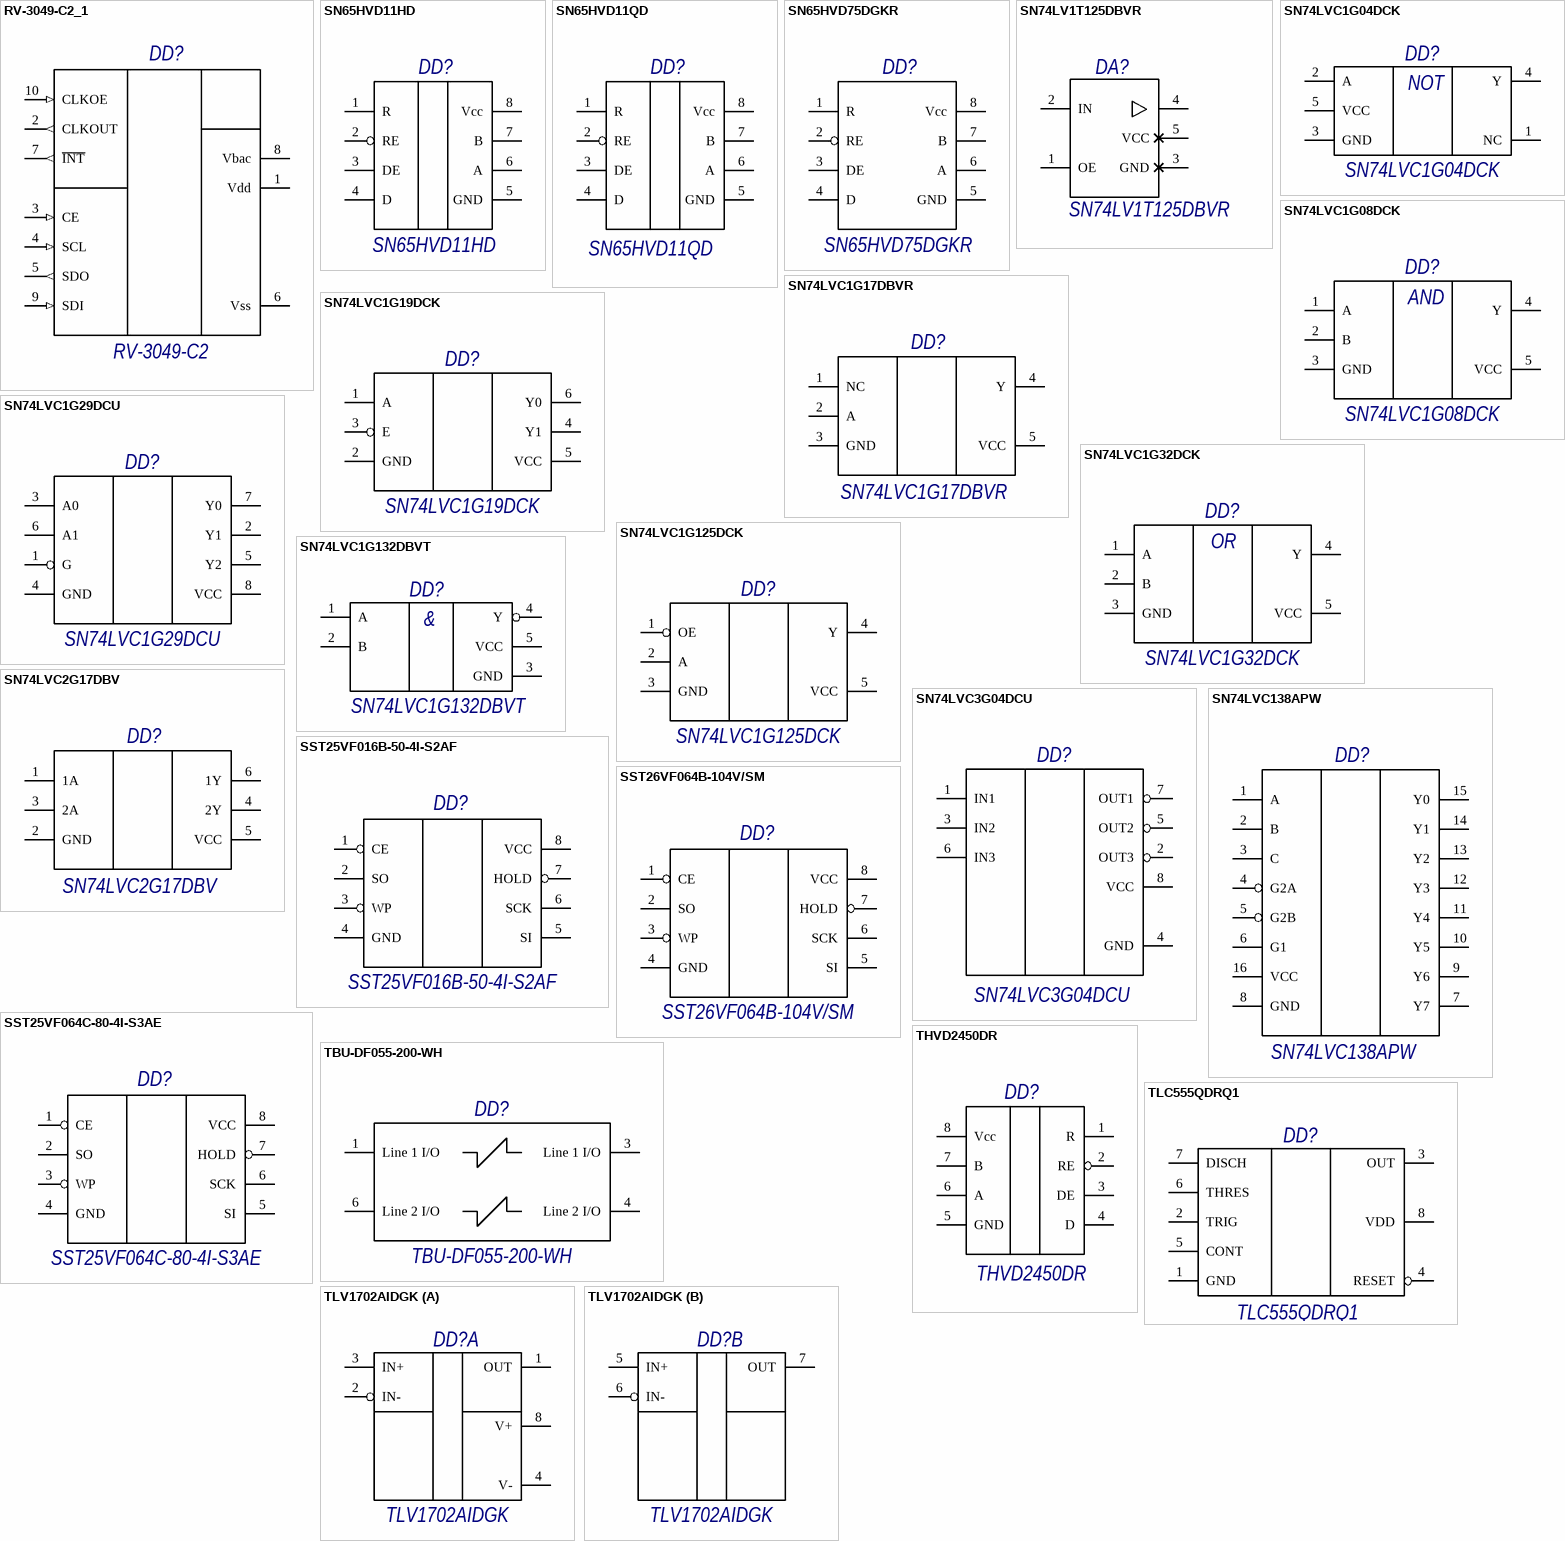
[diagram p5: symbols RV-3049-C2_1 to TLV1702AIDGK]

## RV-3049-C2_1
designator DD?, comment PartNumber: RV-3049-C2  (hidden comment: Микросхема RV-3049-C2 фирма "Micro crystal")
Real-Time Clock Module with SPI-Bus; GOST: Микросхема RV-3049-C2 фирма "Micro crystal"
footprint RV-3049-C2
pins: 1 Vdd, 2 CLKOUT (out), 3 CE (in), 4 SCL (in), 5 SDO (out), 6 Vss, 7 ~{INT} (out), 8 Vbac, 9 SDI (in), 10 CLKOE (in)

## SN65HVD11HD
designator DD?, comment PartNumber: SN65HVD11HD  (hidden comment: Микросхема SN65HVD11HD фирма "Texas Instruments")
RS-485 Transceiver; GOST: Микросхема SN65HVD11HD фирма "Texas Instruments"
footprint D (R-PDSO-G8) (SO-8 Texas Instruments 5x4mm H=1.75mm)
pins: 1 R, 2 RE, 3 DE, 4 D, 5 GND, 6 A, 7 B, 8 Vcc

## SN65HVD11QD
designator DD?, comment PartNumber: SN65HVD11QD  (hidden comment: Микросхема SN65HVD11QD фирма "Texas Instruments")
RS-485 Transceiver; GOST: Микросхема SN65HVD11QD фирма "Texas Instruments"
footprint D (R-PDSO-G8) (SO-8 Texas Instruments 5x4mm H=1.75mm)
pins: 1 R, 2 RE, 3 DE, 4 D, 5 GND, 6 A, 7 B, 8 Vcc

## SN65HVD75DGKR
designator DD?, comment PartNumber: SN65HVD75DGKR  (hidden comment: Микросхема SN65HVD75DGKR фирма "Texas Instruments")
3.3-V Supply RS-485 With IEC ESD protection; GOST: Микросхема SN65HVD75DGKR фирма "Texas Instruments"
footprint DGK (S-PDSO-G8) (VSSOP-8 (MSOP-8) Texas Instruments Korp=3.1x3.1mm Pitch 0.65mm)
pins: 1 R, 2 RE, 3 DE, 4 D, 5 GND, 6 A, 7 B, 8 Vcc

## SN74LV1T125DBVR
designator DA?, comment PartNumber: SN74LV1T125DBVR  (hidden comment: Микросхема SN74LV1T125DBVR фирма "Texas Instruments")
Single Power Supply Single Buffer Gate with 3-StateOutputCMOS Logic Level Shifter SOT-23-5; GOST: Микросхема SN74LV1T125DBVR фирма "Texas Instruments"
footprint SOT-23-5
pins: 1 OE, 2 IN, 3 GND, 4 OUT, 5 VCC

## SN74LVC1G04DCK
designator DD?, comment PartNumber: SN74LVC1G04DCK  (hidden comment: Микросхема SN74LVC1G04DCK фирма "Texas Instruments")
Single Inverter Gate, SC-70; Pattern: SC70; Manufacturer: Texas Instruments; GOST: Микросхема SN74LVC1G04DCK фирма "Texas Instruments"
footprint DCK (R-PDSO-G5) (SC-70-5, 2.15x1.4x1.1)
pins: 1 NC, 2 A, 3 GND, 4 Y, 5 VCC
text: NOT

## SN74LVC1G08DCK
designator DD?, comment PartNumber: SN74LVC1G08DCK  (hidden comment: Микросхема SN74LVC1G08DCK фирма "Texas Instruments")
Single 2-Input Positive-AND gate, SC-70; GOST: Микросхема SN74LVC1G08DCK фирма "Texas Instruments"
footprint DCK (R-PDSO-G5) (SC-70-5, 2.15x1.4x1.1)
pins: 1 A, 2 B, 3 GND, 4 Y, 5 VCC
text: AND

## SN74LVC1G17DBVR
designator DD?, comment PartNumber: SN74LVC1G17DBVR  (hidden comment: Микросхема SN74LVC1G17DBVR фирма "Texas Instruments")
IC BUF NON-INVERT 5.5V SOT23-5; GOST: Микросхема SN74LVC1G17DBVR фирма "Texas Instruments"
footprint SOT-23-5
pins: 1 NC, 2 A, 3 GND, 4 Y, 5 VCC

## SN74LVC1G19DCK
designator DD?, comment PartNumber: SN74LVC1G19DCK  (hidden comment: Микросхема SN74LVC1G19DCK фирма "Texas Instruments")
1-of-2 Decoder and Demultiplexer; GOST: Микросхема SN74LVC1G19DCK фирма "Texas Instruments"
footprint DCK (R-PDSO-G6) (SC70-6, 2.15x1.4x1.1)
pins: 1 A, 2 GND, 3 E, 4 Y1, 5 VCC, 6 Y0

## SN74LVC1G29DCU
designator DD?, comment PartNumber: SN74LVC1G29DCU  (hidden comment: Микросхема SN74LVC1G29DCU фирма "Texas Instruments")
2-of-3 Decoder/Demultiplexer; GOST: Микросхема SN74LVC1G29DCU фирма "Texas Instruments"
footprint DCU (R-PDSO-G8) (VSSOP-8 (MSOP-8) Texas Instruments)
pins: 1 G, 2 Y1, 3 A0, 4 GND, 5 Y2, 6 A1, 7 Y0, 8 VCC

## SN74LVC1G32DCK
designator DD?, comment PartNumber: SN74LVC1G32DCK  (hidden comment: Микросхема SN74LVC1G32DCK фирма "Texas Instruments")
Single 2-Input Positive-OR ate; GOST: Микросхема SN74LVC1G32DCK фирма "Texas Instruments"
footprint DCK (R-PDSO-G5) (SC-70-5, 2.15x1.4x1.1)
pins: 1 A, 2 B, 3 GND, 4 Y, 5 VCC
text: OR

## SN74LVC1G125DCK
designator DD?, comment PartNumber: SN74LVC1G125DCK  (hidden comment: Микросхема SN74LVC1G125DCK фирма "Texas Instruments")
Single  Bus Buffer  Gate With 3-State  Output; GOST: Микросхема SN74LVC1G125DCK фирма "Texas Instruments"
footprint DCK (R-PDSO-G5) (SC-70-5, 2.15x1.4x1.1)
pins: 1 OE, 2 A, 3 GND, 4 Y, 5 VCC

## SN74LVC1G132DBVT
designator DD?, comment PartNumber: SN74LVC1G132DBVT  (hidden comment: Микросхема SN74LVC1G132DBVT фирма "Texas Instruments")
Single 2-Input NAND Gate With Schmitt-Trigger Inputs; GOST: Микросхема SN74LVC1G132DBVT фирма "Texas Instruments"
footprint SOT-23-5
pins: 1 A, 2 B, 3 GND, 4 Y, 5 VCC
text: &

## SN74LVC2G17DBV
designator DD?, comment PartNumber: SN74LVC2G17DBV  (hidden comment: Микросхема SN74LVC2G17DBV фирма "Texas Instruments")
Dual Schmitt-Trigger  Buffer; GOST: Микросхема SN74LVC2G17DBV фирма "Texas Instruments"
footprint SOT-23-6
pins: 1 1A, 2 GND, 3 2A, 4 2Y, 5 VCC, 6 1Y

## SN74LVC3G04DCU
designator DD?, comment PartNumber: SN74LVC3G04DCU  (hidden comment: Микросхема SN74LVC3G04DCU фирма "Texas Instruments")
Triple Inverter Gate; GOST: Микросхема SN74LVC3G04DCU фирма "Texas Instruments"
footprint DCU (R-PDSO-G8) (VSSOP-8 (MSOP-8) Texas Instruments)
pins: 1 IN1, 2 OUT3, 3 IN2, 4 GND, 5 OUT2, 6 IN3, 7 OUT1, 8 VCC

## SN74LVC138APW
designator DD?, comment PartNumber: SN74LVC138APW  (hidden comment: Микросхема SN74LVC138APW фирма "Texas Instruments")
3-Line to 8-Line Decoders Demultiplexers; GOST: Микросхема SN74LVC138APW фирма "Texas Instruments"
footprint PW (R-PDSO-G16) (TSSOP-16, 6.6x5.1mm, H=1.2mm)
pins: 1 A, 2 B, 3 C, 4 G2A, 5 G2B, 6 G1, 7 Y7, 8 GND, 9 Y6, 10 Y5, 11 Y4, 12 Y3, 13 Y2, 14 Y1, 15 Y0, 16 VCC

## SST25VF016B-50-4I-S2AF
designator DD?, comment PartNumber: SST25VF016B-50-4I-S2AF  (hidden comment: Микросхема SST25VF016B-50-4I-S2AF фирма "Microchip")
16 Mbit SPI Serial Flash; GOST: Микросхема SST25VF016B-50-4I-S2AF фирма "Microchip"
footprint SO-8 WIDE (8S2, 8-lead, 0.208” Body, Plastic Small  Outline Package (EIAJ))
pins: 1 CE, 2 SO, 3 WP, 4 GND, 5 SI, 6 SCK, 7 HOLD, 8 VCC

## SST25VF064C-80-4I-S3AE
designator DD?, comment PartNumber: SST25VF064C-80-4I-S3AE  (hidden comment: Микросхема SST25VF064C-80-4I-S3AE фирма "Microchip")
SPI Serial Dual I/O Flash NOR 64M (8Mx8) 80MHz Industrial Temp, 2.7-3.6V, +85C; GOST: Микросхема SST25VF064C-80-4I-S3AE фирма "Microchip"
footprint SO-8 WIDE (8S2, 8-lead, 0.208” Body, Plastic Small  Outline Package (EIAJ))
pins: 1 CE, 2 SO, 3 WP, 4 GND, 5 SI, 6 SCK, 7 HOLD, 8 VCC

## SST26VF064B-104V/SM
designator DD?, comment PartNumber: SST26VF064B-104V/SM  (hidden comment: Микросхема SST26VF064B-104V/SM фирма "Microchip")
2.5V/3.0V 64 Mbit Serial Quad I/O (SQI) Flash Memory SOIJ (5.28 mm Body), 8-lead; GOST: Микросхема SST26VF064B-104V/SM фирма "Microchip"; Patern: SOIJ (5.28 mm Body), 8-lead
footprint SOIJ-8 (SOIJ (5.28 mm Body), 8-lead)
pins: 1 CE, 2 SO, 3 WP, 4 GND, 5 SI, 6 SCK, 7 HOLD, 8 VCC

## TBU-DF055-200-WH
designator DD?, comment PartNumber: TBU-DF055-200-WH  (hidden comment: Микросхема TBU-DF055-200-WH фирма "Bourns")
Подавитель выбросов напряжения 200 mA I(TRIGGER) 550 V(IMP); GOST: Микросхема TBU-DF055-200-WH фирма "Bourns"
footprint TBU-DFxxx-yyy-WH (DFN 6.5x5.5mm TBU-DF Series - TBU High-Speed Protectors Bourns)
pins: 1 Line 1 I/O, 3 Line 1 I/O, 4 Line 2 I/O, 6 Line 2 I/O

## THVD2450DR
designator DD?, comment PartNumber: THVD2450DR  (hidden comment: Микросхема THVD2450DR фирма "Texas Instruments")
RS-485 Transceivers ±70-V Fault-Protected 3.3-V to 5-V With IEC ESD; GOST: Микросхема THVD2450DR фирма "Texas Instruments"
footprint D (R-PDSO-G8) (SO-8 Texas Instruments 5x4mm H=1.75mm)
pins: 1 R, 2 RE, 3 DE, 4 D, 5 GND, 6 A, 7 B, 8 Vcc

## TLC555QDRQ1
designator DD?, comment PartNumber: TLC555QDRQ1  (hidden comment: Микросхема TLC555QDRQ1 фирма "Texas Instruments")
555 Type, Timer/Oscillator (Single) IC 2.1MHz 8-SOIC; Manufacturer: Texas Instruments; Pattern: 8-SOIC; GOST: Микросхема TLC555QDRQ1 фирма "Texas Instruments"
footprint SO-8 (5x4mm H=1.75mm)
pins: 1 GND, 2 TRIG, 3 OUT, 4 RESET, 5 CONT, 6 THRES, 7 DISCH, 8 VDD

## TLV1702AIDGK
designator DD?, comment PartNumber: TLV1702AIDGK  (hidden comment: Микросхема TLV1702AIDGK фирма "Texas Instruments")
2.2-V to 36-V, microPower Comparator, rail-to-rail inputs; GOST: Микросхема TLV1702AIDGK фирма "Texas Instruments"
footprint DGK (S-PDSO-G8) (VSSOP-8 (MSOP-8) Texas Instruments)
part A pins: 1 OUT, 2 IN-, 3 IN+, 4 V-, 8 V+
part B pins: 5 IN+, 6 IN-, 7 OUT

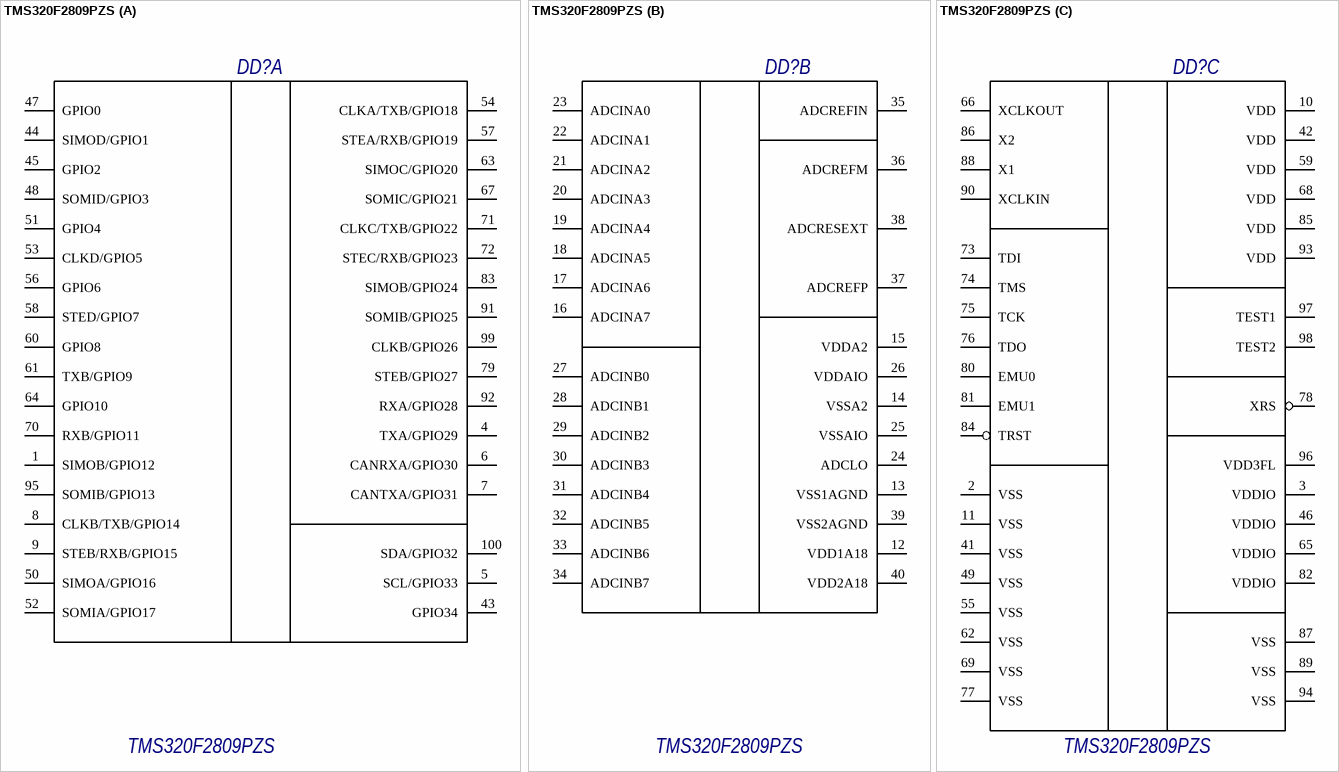
[diagram p6: symbol TMS320F2809PZS]

## TMS320F2809PZS
designator DD?, comment PartNumber: TMS320F2809PZS  (hidden comment: Микросхема TMS320F2809PZS фирма "Texas Instruments")
Digital Signal Processor; GOST: Микросхема TMS320F2809PZS фирма "Texas Instruments"
footprint PZ (S-PQFP-G100) (14x14mm H=1.45mm (LQFP-100))
part A pins: 1 SIMOB/GPIO12, 4 TXA/GPIO29, 5 SCL/GPIO33, 6 CANRXA/GPIO30, 7 CANTXA/GPIO31, 8 CLKB/TXB/GPIO14, 9 STEB/RXB/GPIO15, 43 GPIO34, 44 SIMOD/GPIO1, 45 GPIO2, 47 GPIO0, 48 SOMID/GPIO3, 50 SIMOA/GPIO16, 51 GPIO4, 52 SOMIA/GPIO17, 53 CLKD/GPIO5, 54 CLKA/TXB/GPIO18, 56 GPIO6, 57 STEA/RXB/GPIO19, 58 STED/GPIO7, 60 GPIO8, 61 TXB/GPIO9, 63 SIMOC/GPIO20, 64 GPIO10, 67 SOMIC/GPIO21, 70 RXB/GPIO11, 71 CLKC/TXB/GPIO22, 72 STEC/RXB/GPIO23, 79 STEB/GPIO27, 83 SIMOB/GPIO24, 91 SOMIB/GPIO25, 92 RXA/GPIO28, 95 SOMIB/GPIO13, 99 CLKB/GPIO26, 100 SDA/GPIO32
part B pins: 12 VDD1A18, 13 VSS1AGND, 14 VSSA2, 15 VDDA2, 16 ADCINA7, 17 ADCINA6, 18 ADCINA5, 19 ADCINA4, 20 ADCINA3, 21 ADCINA2, 22 ADCINA1, 23 ADCINA0, 24 ADCLO, 25 VSSAIO, 26 VDDAIO, 27 ADCINB0, 28 ADCINB1, 29 ADCINB2, 30 ADCINB3, 31 ADCINB4, 32 ADCINB5, 33 ADCINB6, 34 ADCINB7, 35 ADCREFIN, 36 ADCREFM, 37 ADCREFP, 38 ADCRESEXT, 39 VSS2AGND, 40 VDD2A18
part C pins: 2 VSS, 3 VDDIO, 10 VDD, 11 VSS, 41 VSS, 42 VDD, 46 VDDIO, 49 VSS, 55 VSS, 59 VDD, 62 VSS, 65 VDDIO, 66 XCLKOUT, 68 VDD, 69 VSS, 73 TDI, 74 TMS, 75 TCK, 76 TDO, 77 VSS, 78 XRS, 80 EMU0, 81 EMU1, 82 VDDIO, 84 TRST, 85 VDD, 86 X2, 87 VSS, 88 X1, 89 VSS, 90 XCLKIN, 93 VDD, 94 VSS, 96 VDD3FL, 97 TEST1, 98 TEST2

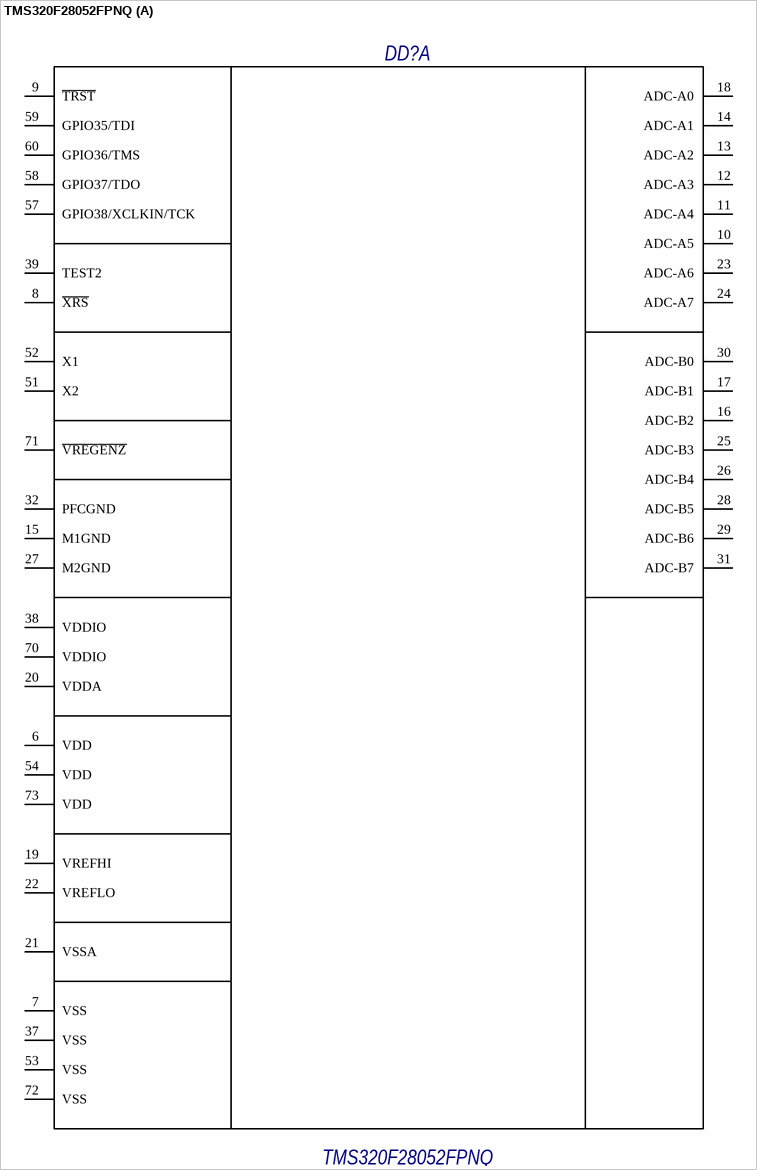
[diagram p7: symbol TMS320F28052FPNQ]

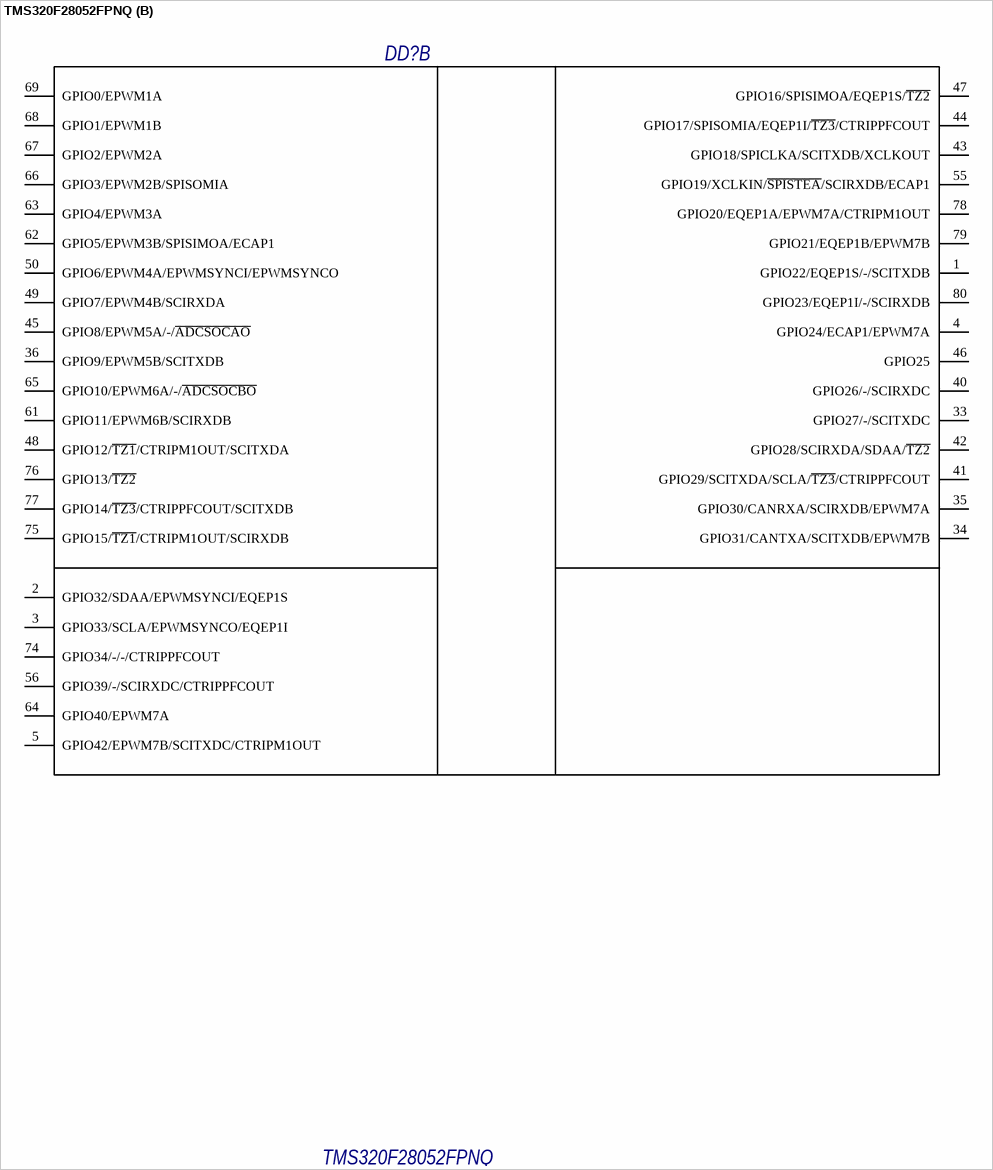
[diagram p8: symbol TMS320F28052FPNQ]

## TMS320F28052FPNQ
designator DD?, comment PartNumber: TMS320F28052FPNQ  (hidden comment: Микросхема TMS320F28052FPNQ фирма "Texas Instruments")
32-bit Microcontrollers - MCU, 16 chanal ACP, 125C; GOST: Микросхема TMS320F28052FPNQ фирма "Texas Instruments"
footprint PN (S-PQFP-G80) (body 12x12mm H=1.45mm  step 0.5mm (LQFP-80))
part A pins: 6 VDD, 7 VSS, 8 ~{XRS}, 9 ~{TRST}, 10 ADC-A5, 11 ADC-A4, 12 ADC-A3, 13 ADC-A2, 14 ADC-A1, 15 M1GND, 16 ADC-B2, 17 ADC-B1, 18 ADC-A0, 19 VREFHI, 20 VDDA, 21 VSSA, 22 VREFLO, 23 ADC-A6, 24 ADC-A7, 25 ADC-B3, 26 ADC-B4, 27 M2GND, 28 ADC-B5, 29 ADC-B6, 30 ADC-B0, 31 ADC-B7, 32 PFCGND, 37 VSS, 38 VDDIO, 39 TEST2, 51 X2, 52 X1, 53 VSS, 54 VDD, 57 GPIO38/XCLKIN/TCK, 58 GPIO37/TDO, 59 GPIO35/TDI, 60 GPIO36/TMS, 70 VDDIO, 71 ~{VREGENZ}, 72 VSS, 73 VDD
part B pins: 1 GPIO22/EQEP1S/-/SCITXDB, 2 GPIO32/SDAA/EPWMSYNCI/EQEP1S, 3 GPIO33/SCLA/EPWMSYNCO/EQEP1I, 4 GPIO24/ECAP1/EPWM7A, 5 GPIO42/EPWM7B/SCITXDC/CTRIPM1OUT, 33 GPIO27/-/SCITXDC, 34 GPIO31/CANTXA/SCITXDB/EPWM7B, 35 GPIO30/CANRXA/SCIRXDB/EPWM7A, 36 GPIO9/EPWM5B/SCITXDB, 40 GPIO26/-/SCIRXDC, 41 GPIO29/SCITXDA/SCLA/~{TZ3}/CTRIPPFCOUT, 42 GPIO28/SCIRXDA/SDAA/~{TZ2}, 43 GPIO18/SPICLKA/SCITXDB/XCLKOUT, 44 GPIO17/SPISOMIA/EQEP1I/~{TZ3}/CTRIPPFCOUT, 45 GPIO8/EPWM5A/-/~{ADCSOCAO}, 46 GPIO25, 47 GPIO16/SPISIMOA/EQEP1S/~{TZ2}, 48 GPIO12/~{TZ1}/CTRIPM1OUT/SCITXDA, 49 GPIO7/EPWM4B/SCIRXDA, 50 GPIO6/EPWM4A/EPWMSYNCI/EPWMSYNCO, 55 GPIO19/XCLKIN/~{SPISTEA}/SCIRXDB/ECAP1, 56 GPIO39/-/SCIRXDC/CTRIPPFCOUT, 61 GPIO11/EPWM6B/SCIRXDB, 62 GPIO5/EPWM3B/SPISIMOA/ECAP1, 63 GPIO4/EPWM3A, 64 GPIO40/EPWM7A, 65 GPIO10/EPWM6A/-/~{ADCSOCBO}, 66 GPIO3/EPWM2B/SPISOMIA, 67 GPIO2/EPWM2A, 68 GPIO1/EPWM1B, 69 GPIO0/EPWM1A, 74 GPIO34/-/-/CTRIPPFCOUT, 75 GPIO15/~{TZ1}/CTRIPM1OUT/SCIRXDB, 76 GPIO13/~{TZ2}, 77 GPIO14/~{TZ3}/CTRIPPFCOUT/SCITXDB, 78 GPIO20/EQEP1A/EPWM7A/CTRIPM1OUT, 79 GPIO21/EQEP1B/EPWM7B, 80 GPIO23/EQEP1I/-/SCIRXDB

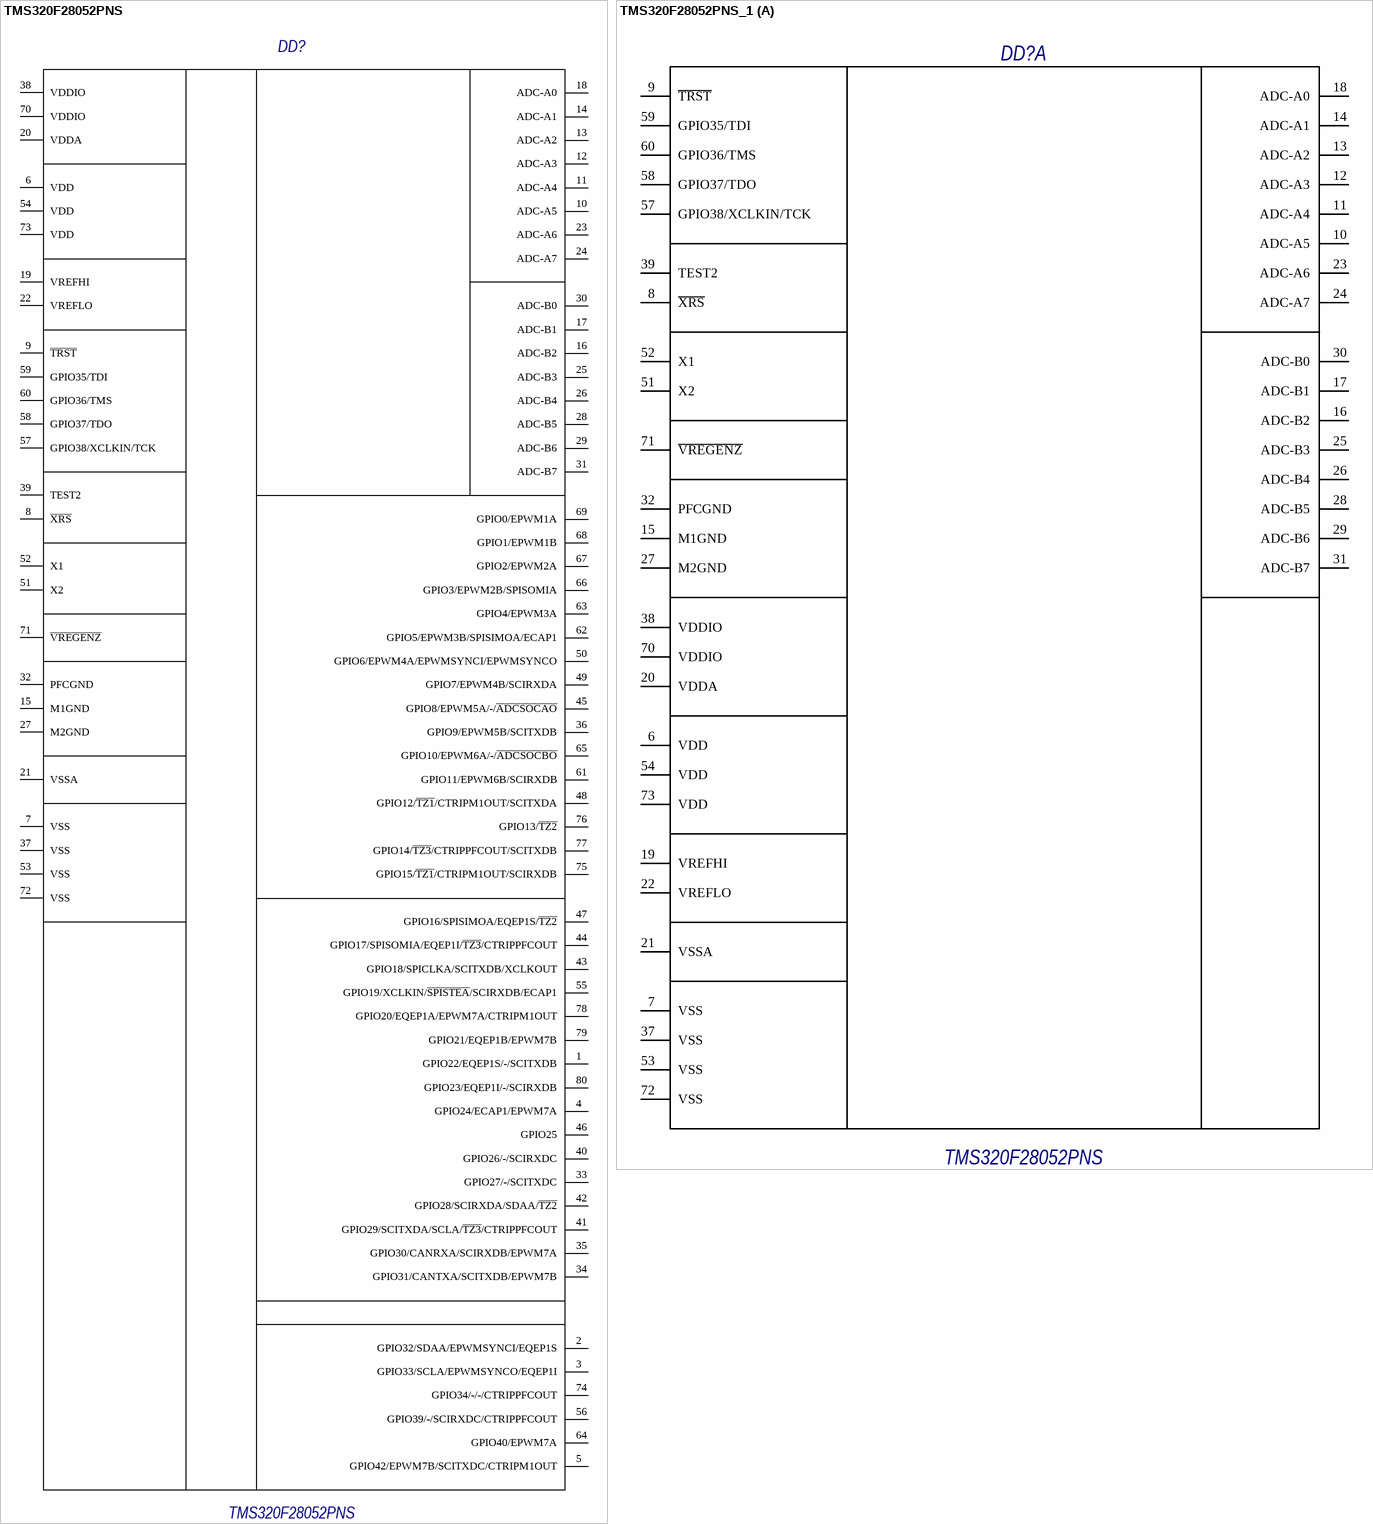
[diagram p9: symbols TMS320F28052PNS to TMS320F28052PNS_1]

## TMS320F28052PNS
designator DD?, comment PartNumber: TMS320F28052PNS  (hidden comment: Микросхема TMS320F28052PNS фирма "Texas Instruments")
32-bit Microcontrollers - MCU, 16 chanal ACP, 125C; GOST: Микросхема TMS320F28052PNS фирма "Texas Instruments"
footprint PN (S-PQFP-G80) (body 12x12mm H=1.45mm  step 0.5mm (LQFP-80))
pins: 1 GPIO22/EQEP1S/-/SCITXDB, 2 GPIO32/SDAA/EPWMSYNCI/EQEP1S, 3 GPIO33/SCLA/EPWMSYNCO/EQEP1I, 4 GPIO24/ECAP1/EPWM7A, 5 GPIO42/EPWM7B/SCITXDC/CTRIPM1OUT, 6 VDD, 7 VSS, 8 ~{XRS}, 9 ~{TRST}, 10 ADC-A5, 11 ADC-A4, 12 ADC-A3, 13 ADC-A2, 14 ADC-A1, 15 M1GND, 16 ADC-B2, 17 ADC-B1, 18 ADC-A0, 19 VREFHI, 20 VDDA, 21 VSSA, 22 VREFLO, 23 ADC-A6, 24 ADC-A7, 25 ADC-B3, 26 ADC-B4, 27 M2GND, 28 ADC-B5, 29 ADC-B6, 30 ADC-B0, 31 ADC-B7, 32 PFCGND, 33 GPIO27/-/SCITXDC, 34 GPIO31/CANTXA/SCITXDB/EPWM7B, 35 GPIO30/CANRXA/SCIRXDB/EPWM7A, 36 GPIO9/EPWM5B/SCITXDB, 37 VSS, 38 VDDIO, 39 TEST2, 40 GPIO26/-/SCIRXDC, 41 GPIO29/SCITXDA/SCLA/~{TZ3}/CTRIPPFCOUT, 42 GPIO28/SCIRXDA/SDAA/~{TZ2}, 43 GPIO18/SPICLKA/SCITXDB/XCLKOUT, 44 GPIO17/SPISOMIA/EQEP1I/~{TZ3}/CTRIPPFCOUT, 45 GPIO8/EPWM5A/-/~{ADCSOCAO}, 46 GPIO25, 47 GPIO16/SPISIMOA/EQEP1S/~{TZ2}, 48 GPIO12/~{TZ1}/CTRIPM1OUT/SCITXDA, 49 GPIO7/EPWM4B/SCIRXDA, 50 GPIO6/EPWM4A/EPWMSYNCI/EPWMSYNCO, 51 X2, 52 X1, 53 VSS, 54 VDD, 55 GPIO19/XCLKIN/~{SPISTEA}/SCIRXDB/ECAP1, 56 GPIO39/-/SCIRXDC/CTRIPPFCOUT, 57 GPIO38/XCLKIN/TCK, 58 GPIO37/TDO, 59 GPIO35/TDI, 60 GPIO36/TMS, 61 GPIO11/EPWM6B/SCIRXDB, 62 GPIO5/EPWM3B/SPISIMOA/ECAP1, 63 GPIO4/EPWM3A, 64 GPIO40/EPWM7A, 65 GPIO10/EPWM6A/-/~{ADCSOCBO}, 66 GPIO3/EPWM2B/SPISOMIA, 67 GPIO2/EPWM2A, 68 GPIO1/EPWM1B, 69 GPIO0/EPWM1A, 70 VDDIO, 71 ~{VREGENZ}, 72 VSS, 73 VDD, 74 GPIO34/-/-/CTRIPPFCOUT, 75 GPIO15/~{TZ1}/CTRIPM1OUT/SCIRXDB, 76 GPIO13/~{TZ2}, 77 GPIO14/~{TZ3}/CTRIPPFCOUT/SCITXDB, 78 GPIO20/EQEP1A/EPWM7A/CTRIPM1OUT, 79 GPIO21/EQEP1B/EPWM7B, 80 GPIO23/EQEP1I/-/SCIRXDB

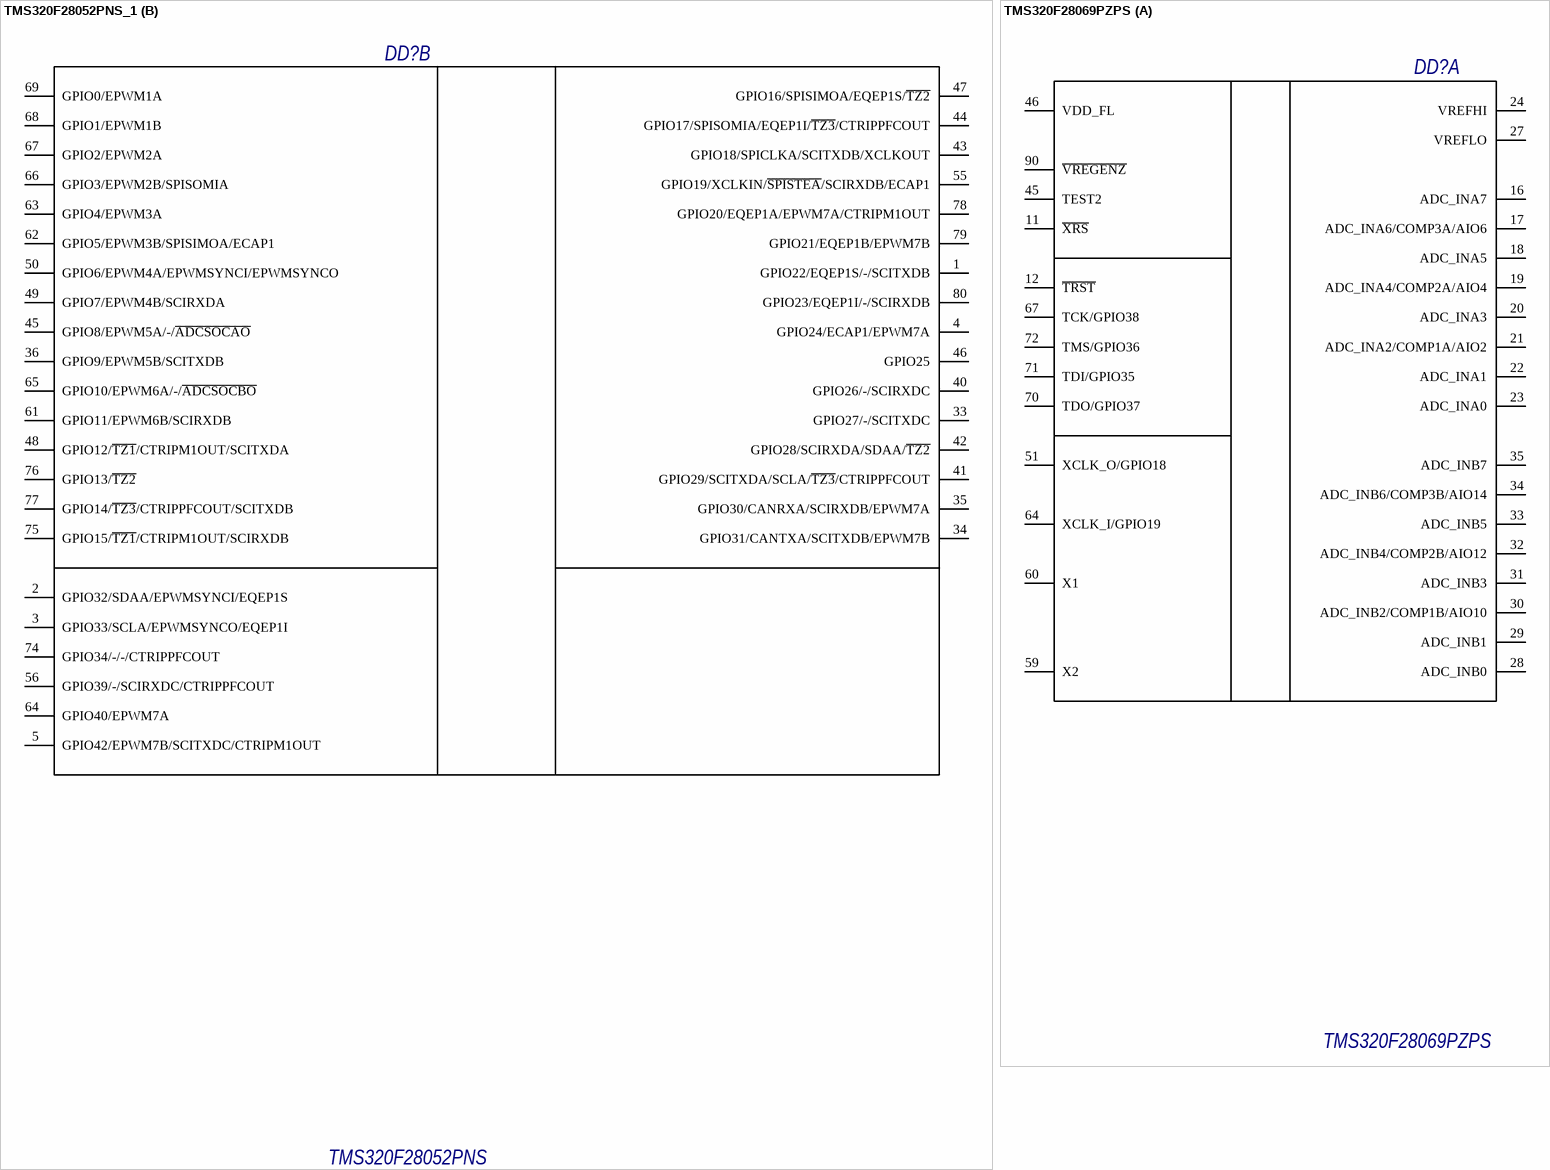
[diagram p10: symbols TMS320F28052PNS_1 to TMS320F28069PZPS]

## TMS320F28052PNS_1
designator DD?, comment PartNumber: TMS320F28052PNS  (hidden comment: Микросхема TMS320F28052PNS фирма "Texas Instruments")
32-bit Microcontrollers - MCU, 16 chanal ACP, 125C; GOST: Микросхема TMS320F28052PNS фирма "Texas Instruments"
footprint PN (S-PQFP-G80) (body 12x12mm H=1.45mm  step 0.5mm (LQFP-80))
part A pins: 6 VDD, 7 VSS, 8 ~{XRS}, 9 ~{TRST}, 10 ADC-A5, 11 ADC-A4, 12 ADC-A3, 13 ADC-A2, 14 ADC-A1, 15 M1GND, 16 ADC-B2, 17 ADC-B1, 18 ADC-A0, 19 VREFHI, 20 VDDA, 21 VSSA, 22 VREFLO, 23 ADC-A6, 24 ADC-A7, 25 ADC-B3, 26 ADC-B4, 27 M2GND, 28 ADC-B5, 29 ADC-B6, 30 ADC-B0, 31 ADC-B7, 32 PFCGND, 37 VSS, 38 VDDIO, 39 TEST2, 51 X2, 52 X1, 53 VSS, 54 VDD, 57 GPIO38/XCLKIN/TCK, 58 GPIO37/TDO, 59 GPIO35/TDI, 60 GPIO36/TMS, 70 VDDIO, 71 ~{VREGENZ}, 72 VSS, 73 VDD
part B pins: 1 GPIO22/EQEP1S/-/SCITXDB, 2 GPIO32/SDAA/EPWMSYNCI/EQEP1S, 3 GPIO33/SCLA/EPWMSYNCO/EQEP1I, 4 GPIO24/ECAP1/EPWM7A, 5 GPIO42/EPWM7B/SCITXDC/CTRIPM1OUT, 33 GPIO27/-/SCITXDC, 34 GPIO31/CANTXA/SCITXDB/EPWM7B, 35 GPIO30/CANRXA/SCIRXDB/EPWM7A, 36 GPIO9/EPWM5B/SCITXDB, 40 GPIO26/-/SCIRXDC, 41 GPIO29/SCITXDA/SCLA/~{TZ3}/CTRIPPFCOUT, 42 GPIO28/SCIRXDA/SDAA/~{TZ2}, 43 GPIO18/SPICLKA/SCITXDB/XCLKOUT, 44 GPIO17/SPISOMIA/EQEP1I/~{TZ3}/CTRIPPFCOUT, 45 GPIO8/EPWM5A/-/~{ADCSOCAO}, 46 GPIO25, 47 GPIO16/SPISIMOA/EQEP1S/~{TZ2}, 48 GPIO12/~{TZ1}/CTRIPM1OUT/SCITXDA, 49 GPIO7/EPWM4B/SCIRXDA, 50 GPIO6/EPWM4A/EPWMSYNCI/EPWMSYNCO, 55 GPIO19/XCLKIN/~{SPISTEA}/SCIRXDB/ECAP1, 56 GPIO39/-/SCIRXDC/CTRIPPFCOUT, 61 GPIO11/EPWM6B/SCIRXDB, 62 GPIO5/EPWM3B/SPISIMOA/ECAP1, 63 GPIO4/EPWM3A, 64 GPIO40/EPWM7A, 65 GPIO10/EPWM6A/-/~{ADCSOCBO}, 66 GPIO3/EPWM2B/SPISOMIA, 67 GPIO2/EPWM2A, 68 GPIO1/EPWM1B, 69 GPIO0/EPWM1A, 74 GPIO34/-/-/CTRIPPFCOUT, 75 GPIO15/~{TZ1}/CTRIPM1OUT/SCIRXDB, 76 GPIO13/~{TZ2}, 77 GPIO14/~{TZ3}/CTRIPPFCOUT/SCITXDB, 78 GPIO20/EQEP1A/EPWM7A/CTRIPM1OUT, 79 GPIO21/EQEP1B/EPWM7B, 80 GPIO23/EQEP1I/-/SCIRXDB

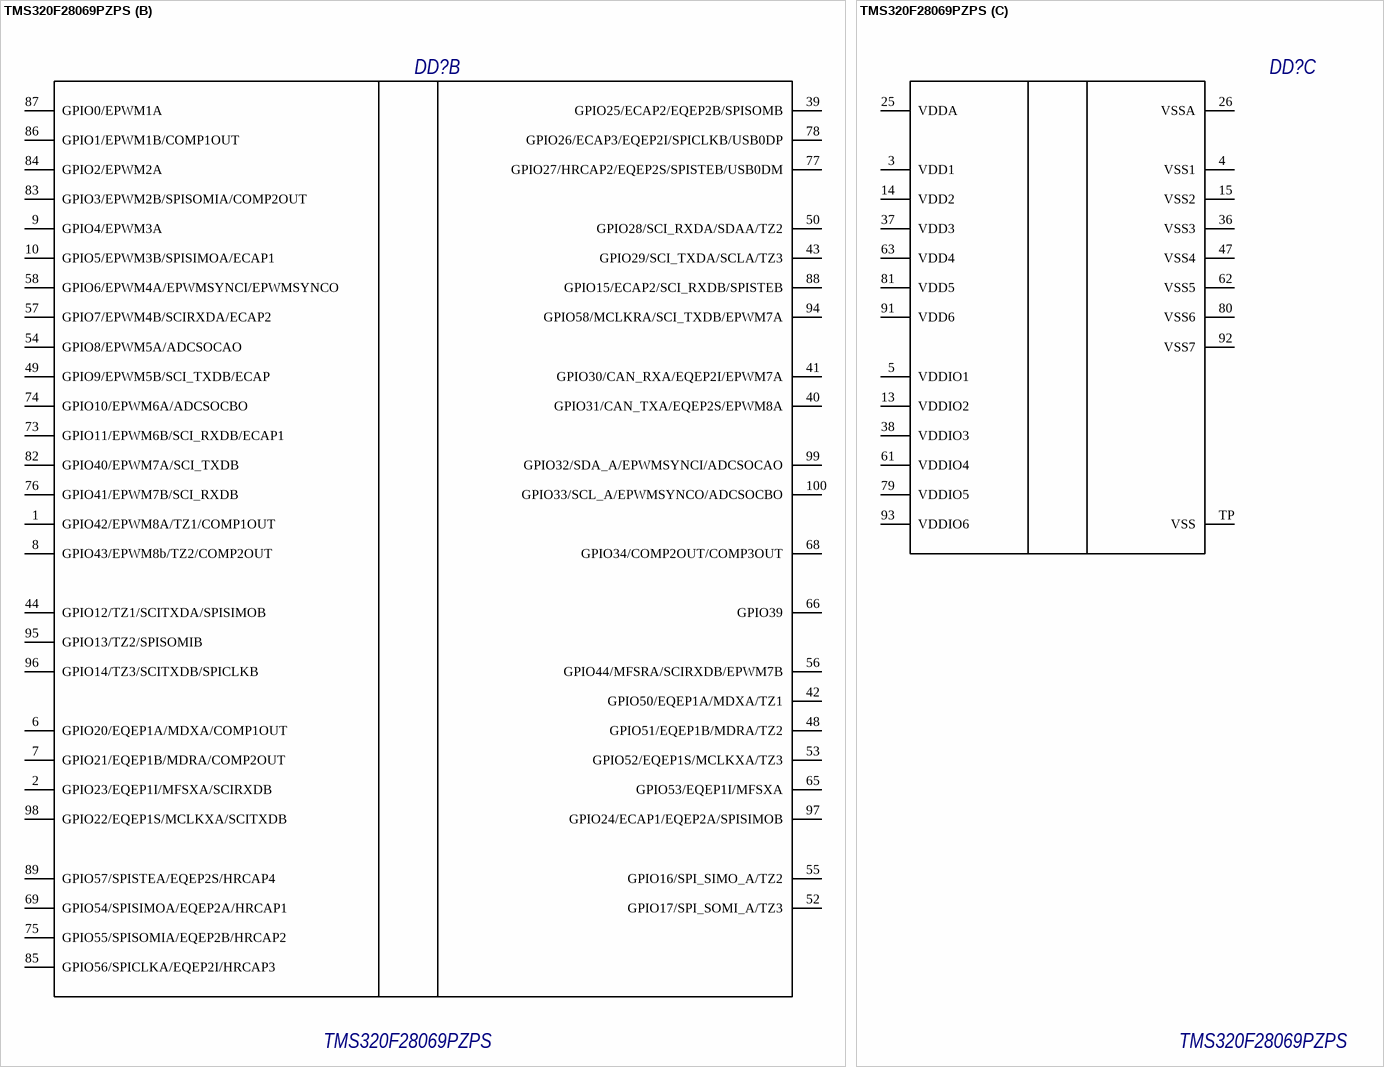
[diagram p11: symbol TMS320F28069PZPS]

## TMS320F28069PZPS
designator DD?, comment PartNumber: TMS320F28069PZPS  (hidden comment: Микросхема TMS320F28069PZPS фирма "Texas Instruments")
Digital Signal Processor; GOST: Микросхема TMS320F28069PZPS фирма "Texas Instruments"
footprint PZP (S-PQFP-G100) (14x14mm H=1.2mm (LQFP-100 & TP))
part A pins: 11 ~{XRS}, 12 ~{TRST}, 16 ADC_INA7, 17 ADC_INA6/COMP3A/AIO6, 18 ADC_INA5, 19 ADC_INA4/COMP2A/AIO4, 20 ADC_INA3, 21 ADC_INA2/COMP1A/AIO2, 22 ADC_INA1, 23 ADC_INA0, 24 VREFHI, 27 VREFLO, 28 ADC_INB0, 29 ADC_INB1, 30 ADC_INB2/COMP1B/AIO10, 31 ADC_INB3, 32 ADC_INB4/COMP2B/AIO12, 33 ADC_INB5, 34 ADC_INB6/COMP3B/AIO14, 35 ADC_INB7, 45 TEST2, 46 VDD_FL, 51 XCLK_O/GPIO18, 59 X2, 60 X1, 64 XCLK_I/GPIO19, 67 TCK/GPIO38, 70 TDO/GPIO37, 71 TDI/GPIO35, 72 TMS/GPIO36, 90 ~{VREGENZ}
part B pins: 1 GPIO42/EPWM8A/TZ1/COMP1OUT, 2 GPIO23/EQEP1I/MFSXA/SCIRXDB, 6 GPIO20/EQEP1A/MDXA/COMP1OUT, 7 GPIO21/EQEP1B/MDRA/COMP2OUT, 8 GPIO43/EPWM8b/TZ2/COMP2OUT, 9 GPIO4/EPWM3A, 10 GPIO5/EPWM3B/SPISIMOA/ECAP1, 39 GPIO25/ECAP2/EQEP2B/SPISOMB, 40 GPIO31/CAN_TXA/EQEP2S/EPWM8A, 41 GPIO30/CAN_RXA/EQEP2I/EPWM7A, 42 GPIO50/EQEP1A/MDXA/TZ1, 43 GPIO29/SCI_TXDA/SCLA/TZ3, 44 GPIO12/TZ1/SCITXDA/SPISIMOB, 48 GPIO51/EQEP1B/MDRA/TZ2, 49 GPIO9/EPWM5B/SCI_TXDB/ECAP, 50 GPIO28/SCI_RXDA/SDAA/TZ2, 52 GPIO17/SPI_SOMI_A/TZ3, 53 GPIO52/EQEP1S/MCLKXA/TZ3, 54 GPIO8/EPWM5A/ADCSOCAO, 55 GPIO16/SPI_SIMO_A/TZ2, 56 GPIO44/MFSRA/SCIRXDB/EPWM7B, 57 GPIO7/EPWM4B/SCIRXDA/ECAP2, 58 GPIO6/EPWM4A/EPWMSYNCI/EPWMSYNCO, 65 GPIO53/EQEP1I/MFSXA, 66 GPIO39, 68 GPIO34/COMP2OUT/COMP3OUT, 69 GPIO54/SPISIMOA/EQEP2A/HRCAP1, 73 GPIO11/EPWM6B/SCI_RXDB/ECAP1, 74 GPIO10/EPWM6A/ADCSOCBO, 75 GPIO55/SPISOMIA/EQEP2B/HRCAP2, 76 GPIO41/EPWM7B/SCI_RXDB, 77 GPIO27/HRCAP2/EQEP2S/SPISTEB/USB0DM, 78 GPIO26/ECAP3/EQEP2I/SPICLKB/USB0DP, 82 GPIO40/EPWM7A/SCI_TXDB, 83 GPIO3/EPWM2B/SPISOMIA/COMP2OUT, 84 GPIO2/EPWM2A, 85 GPIO56/SPICLKA/EQEP2I/HRCAP3, 86 GPIO1/EPWM1B/COMP1OUT, 87 GPIO0/EPWM1A, 88 GPIO15/ECAP2/SCI_RXDB/SPISTEB, 89 GPIO57/SPISTEA/EQEP2S/HRCAP4, 94 GPIO58/MCLKRA/SCI_TXDB/EPWM7A, 95 GPIO13/TZ2/SPISOMIB, 96 GPIO14/TZ3/SCITXDB/SPICLKB, 97 GPIO24/ECAP1/EQEP2A/SPISIMOB, 98 GPIO22/EQEP1S/MCLKXA/SCITXDB, 99 GPIO32/SDA_A/EPWMSYNCI/ADCSOCAO, 100 GPIO33/SCL_A/EPWMSYNCO/ADCSOCBO
part C pins: 3 VDD1, 4 VSS1, 5 VDDIO1, 13 VDDIO2, 14 VDD2, 15 VSS2, 25 VDDA, 26 VSSA, 36 VSS3, 37 VDD3, 38 VDDIO3, 47 VSS4, 61 VDDIO4, 62 VSS5, 63 VDD4, 79 VDDIO5, 80 VSS6, 81 VDD5, 91 VDD6, 92 VSS7, 93 VDDIO6, TP VSS

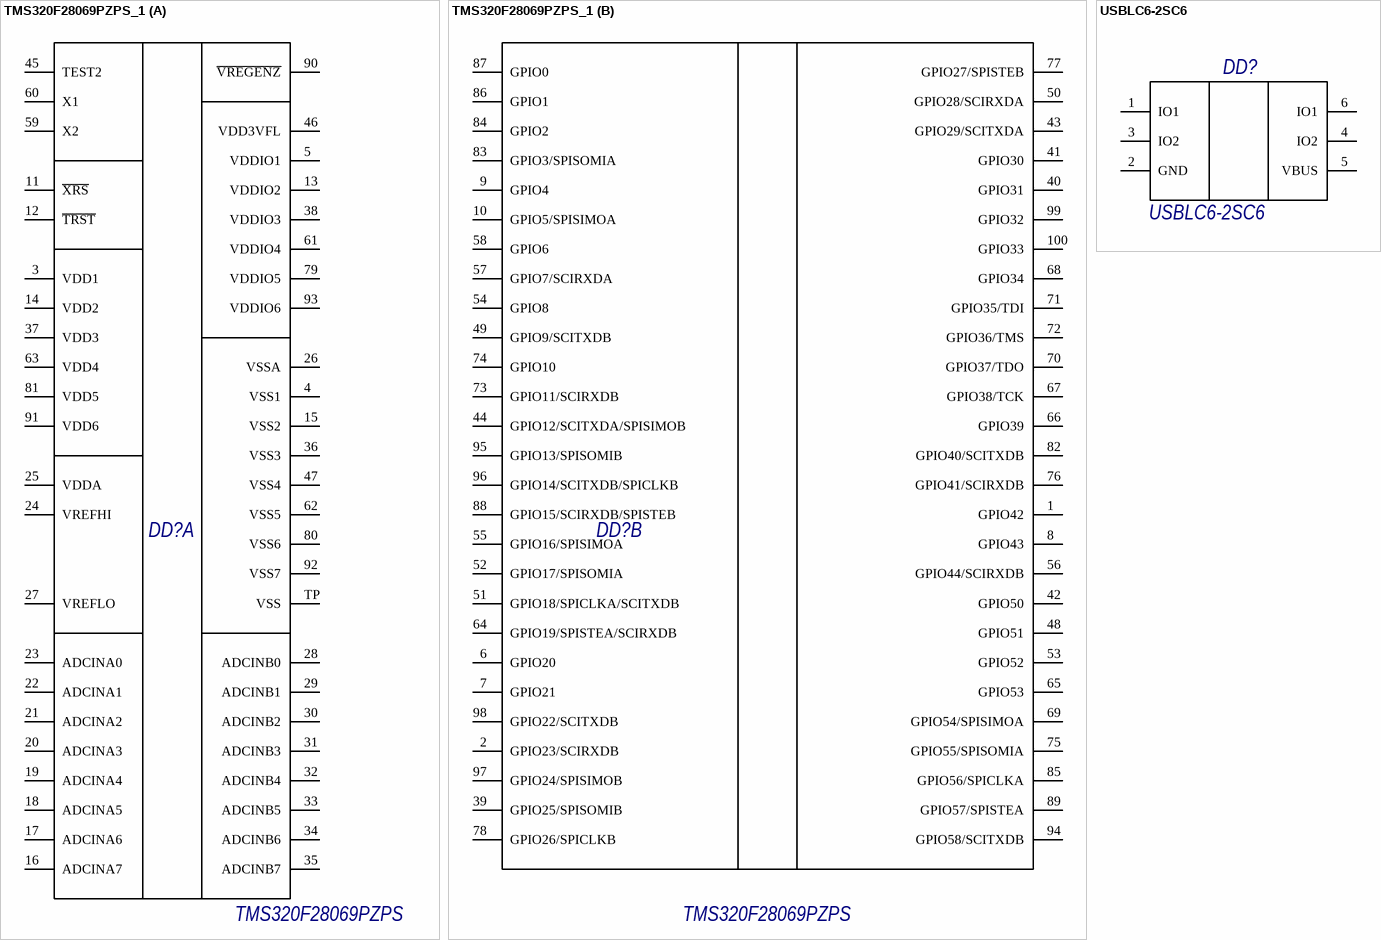
[diagram p12: symbols TMS320F28069PZPS_1 to USBLC6-2SC6]

## TMS320F28069PZPS_1
designator DD?, comment PartNumber: TMS320F28069PZPS  (hidden comment: Микросхема TMS320F28069PZPS фирма "Texas Instruments")
Digital Signal Processor; GOST: Микросхема TMS320F28069PZPS фирма "Texas Instruments"
footprint PZP (S-PQFP-G100) (14x14mm H=1.2mm (LQFP-100 & TP))
part A pins: 3 VDD1, 4 VSS1, 5 VDDIO1, 11 ~{XRS}, 12 ~{TRST}, 13 VDDIO2, 14 VDD2, 15 VSS2, 16 ADCINA7, 17 ADCINA6, 18 ADCINA5, 19 ADCINA4, 20 ADCINA3, 21 ADCINA2, 22 ADCINA1, 23 ADCINA0, 24 VREFHI, 25 VDDA, 26 VSSA, 27 VREFLO, 28 ADCINB0, 29 ADCINB1, 30 ADCINB2, 31 ADCINB3, 32 ADCINB4, 33 ADCINB5, 34 ADCINB6, 35 ADCINB7, 36 VSS3, 37 VDD3, 38 VDDIO3, 45 TEST2, 46 VDD3VFL, 47 VSS4, 59 X2, 60 X1, 61 VDDIO4, 62 VSS5, 63 VDD4, 79 VDDIO5, 80 VSS6, 81 VDD5, 90 ~{VREGENZ}, 91 VDD6, 92 VSS7, 93 VDDIO6, TP VSS
part B pins: 1 GPIO42, 2 GPIO23/SCIRXDB, 6 GPIO20, 7 GPIO21, 8 GPIO43, 9 GPIO4, 10 GPIO5/SPISIMOA, 39 GPIO25/SPISOMIB, 40 GPIO31, 41 GPIO30, 42 GPIO50, 43 GPIO29/SCITXDA, 44 GPIO12/SCITXDA/SPISIMOB, 48 GPIO51, 49 GPIO9/SCITXDB, 50 GPIO28/SCIRXDA, 51 GPIO18/SPICLKA/SCITXDB, 52 GPIO17/SPISOMIA, 53 GPIO52, 54 GPIO8, 55 GPIO16/SPISIMOA, 56 GPIO44/SCIRXDB, 57 GPIO7/SCIRXDA, 58 GPIO6, 64 GPIO19/SPISTEA/SCIRXDB, 65 GPIO53, 66 GPIO39, 67 GPIO38/TCK, 68 GPIO34, 69 GPIO54/SPISIMOA, 70 GPIO37/TDO, 71 GPIO35/TDI, 72 GPIO36/TMS, 73 GPIO11/SCIRXDB, 74 GPIO10, 75 GPIO55/SPISOMIA, 76 GPIO41/SCIRXDB, 77 GPIO27/SPISTEB, 78 GPIO26/SPICLKB, 82 GPIO40/SCITXDB, 83 GPIO3/SPISOMIA, 84 GPIO2, 85 GPIO56/SPICLKA, 86 GPIO1, 87 GPIO0, 88 GPIO15/SCIRXDB/SPISTEB, 89 GPIO57/SPISTEA, 94 GPIO58/SCITXDB, 95 GPIO13/SPISOMIB, 96 GPIO14/SCITXDB/SPICLKB, 97 GPIO24/SPISIMOB, 98 GPIO22/SCITXDB, 99 GPIO32, 100 GPIO33

## USBLC6-2SC6
designator DD?, comment PartNumber: USBLC6-2SC6  (hidden comment: Микросхема USBLC6-2SC6 фирма "STMicroelectronics")
Automotive very low capacitance ESD protection; GOST: Микросхема USBLC6-2SC6 фирма "STMicroelectronics"
footprint SOT-23-6
pins: 1 IO1, 2 GND, 3 IO2, 4 IO2, 5 VBUS, 6 IO1

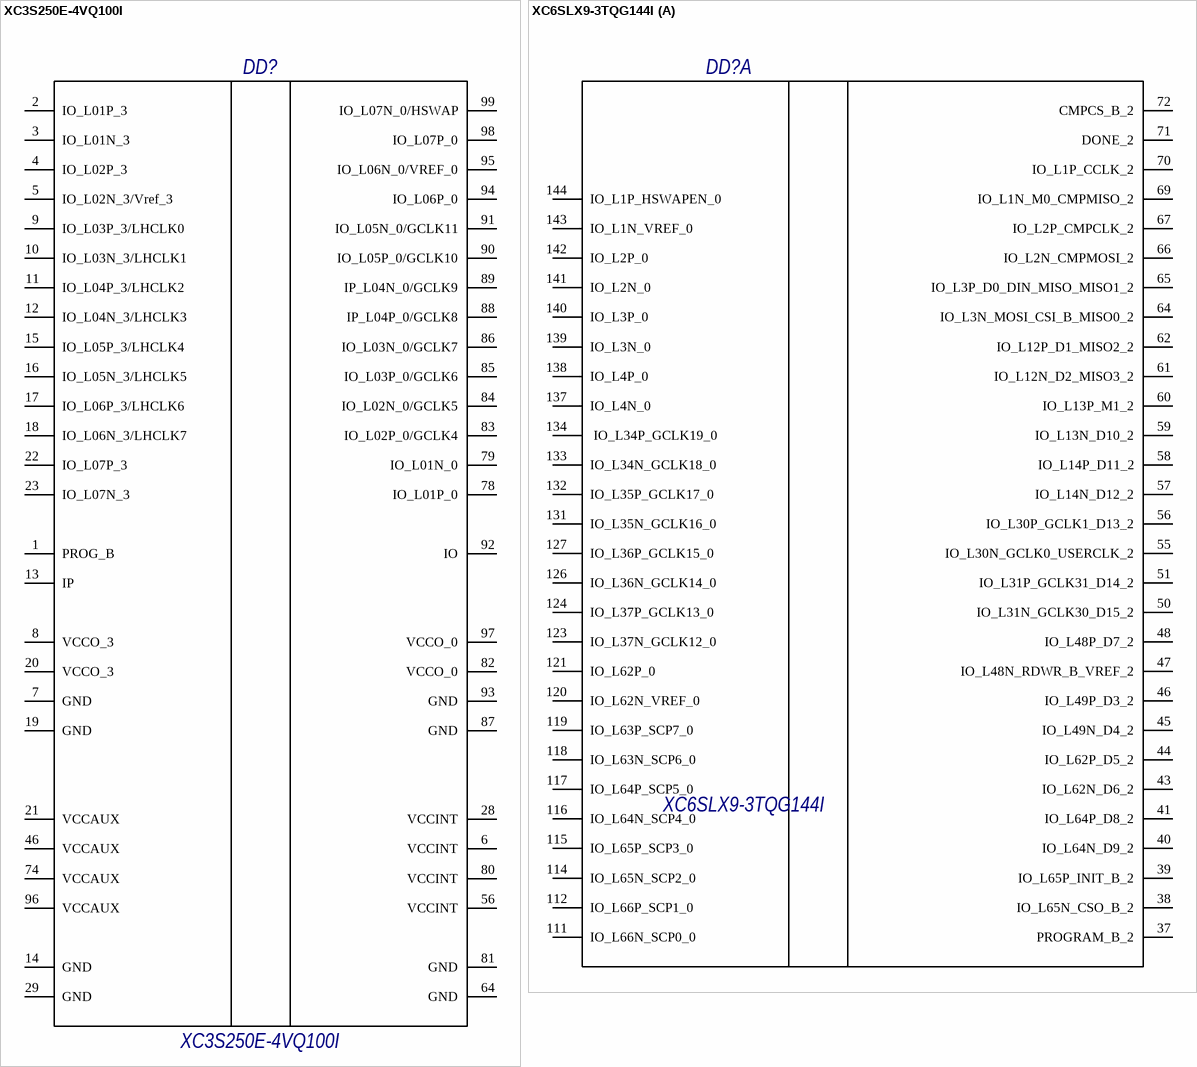
[diagram p13: symbols XC3S250E-4VQ100I to XC6SLX9-3TQG144I]

## XC3S250E-4VQ100I
designator DD?, comment PartNumber: XC3S250E-4VQ100I  (hidden comment: Микросхема XC3S250E-4VQ100I фирма "Xilinx")
FPGA - Field Programmable Gate Array; GOST: Микросхема XC3S250E-4VQ100I фирма "Xilinx"
footprint VQ-100 (Korp 14x14mm Pitch= 0.5mm H=1.1mm VQFP-100 (Xilinx))
pins: 1 PROG_B, 2 IO_L01P_3, 3 IO_L01N_3, 4 IO_L02P_3, 5 IO_L02N_3/Vref_3, 6 VCCINT, 7 GND, 8 VCCO_3, 9 IO_L03P_3/LHCLK0, 10 IO_L03N_3/LHCLK1, 11 IO_L04P_3/LHCLK2, 12 IO_L04N_3/LHCLK3, 13 IP, 14 GND, 15 IO_L05P_3/LHCLK4, 16 IO_L05N_3/LHCLK5, 17 IO_L06P_3/LHCLK6, 18 IO_L06N_3/LHCLK7, 19 GND, 20 VCCO_3, 21 VCCAUX, 22 IO_L07P_3, 23 IO_L07N_3, 28 VCCINT, 29 GND, 46 VCCAUX, 56 VCCINT, 64 GND, 74 VCCAUX, 78 IO_L01P_0, 79 IO_L01N_0, 80 VCCINT, 81 GND, 82 VCCO_0, 83 IO_L02P_0/GCLK4, 84 IO_L02N_0/GCLK5, 85 IO_L03P_0/GCLK6, 86 IO_L03N_0/GCLK7, 87 GND, 88 IP_L04P_0/GCLK8, 89 IP_L04N_0/GCLK9, 90 IO_L05P_0/GCLK10, 91 IO_L05N_0/GCLK11, 92 IO, 93 GND, 94 IO_L06P_0, 95 IO_L06N_0/VREF_0, 96 VCCAUX, 97 VCCO_0, 98 IO_L07P_0, 99 IO_L07N_0/HSWAP

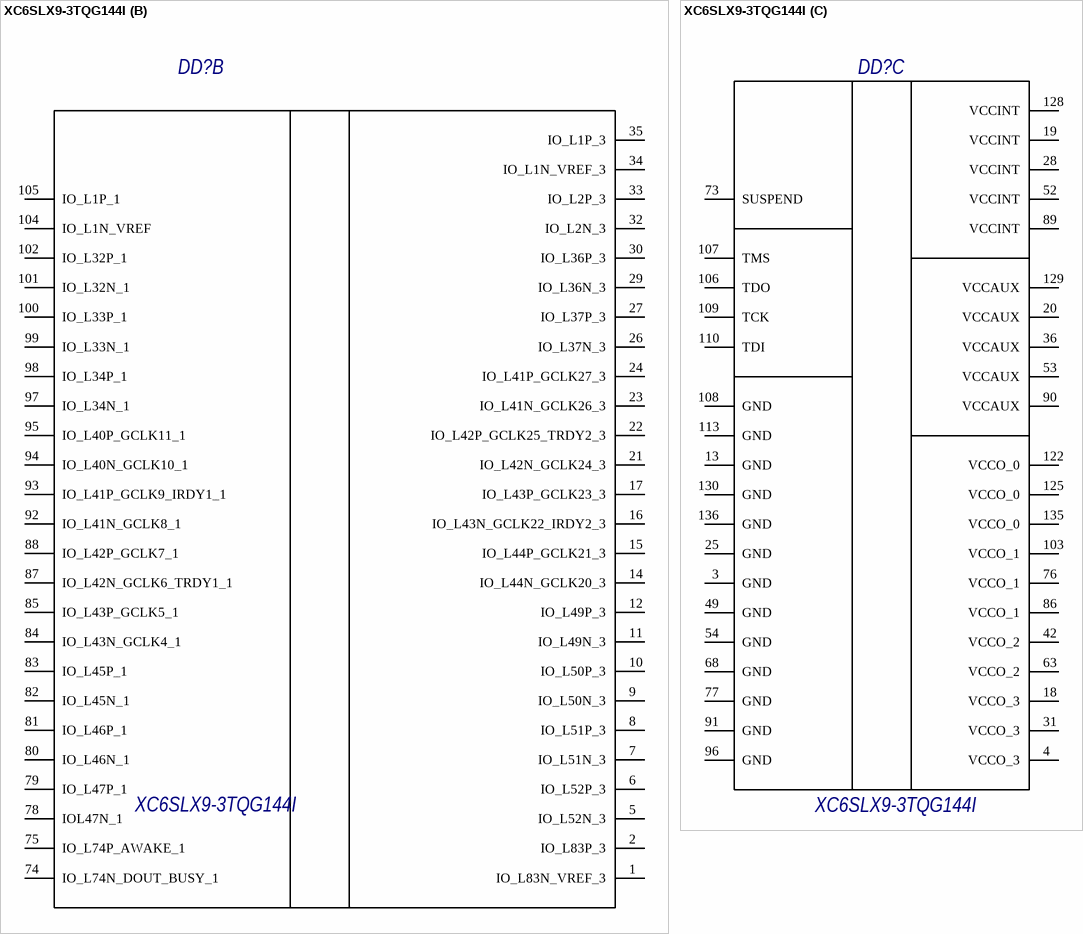
[diagram p14: symbol XC6SLX9-3TQG144I]

## XC6SLX9-3TQG144I
designator DD?, comment PartNumber: XC6SLX9-3TQG144I  (hidden comment: Микросхема XC6SLX9-3TQG144I фирма "Xilinx")
FPGA - Field Programmable Gate Array; GOST: Микросхема XC6SLX9-3TQG144I фирма "Xilinx"
footprint TQFP-144 (20x20mm H=1.6mm)
part A pins: 37 PROGRAM_B_2, 38 IO_L65N_CSO_B_2, 39 IO_L65P_INIT_B_2, 40 IO_L64N_D9_2, 41 IO_L64P_D8_2, 43 IO_L62N_D6_2, 44 IO_L62P_D5_2, 45 IO_L49N_D4_2, 46 IO_L49P_D3_2, 47 IO_L48N_RDWR_B_VREF_2, 48 IO_L48P_D7_2, 50 IO_L31N_GCLK30_D15_2, 51 IO_L31P_GCLK31_D14_2, 55 IO_L30N_GCLK0_USERCLK_2, 56 IO_L30P_GCLK1_D13_2, 57 IO_L14N_D12_2, 58 IO_L14P_D11_2, 59 IO_L13N_D10_2, 60 IO_L13P_M1_2, 61 IO_L12N_D2_MISO3_2, 62 IO_L12P_D1_MISO2_2, 64 IO_L3N_MOSI_CSI_B_MISO0_2, 65 IO_L3P_D0_DIN_MISO_MISO1_2, 66 IO_L2N_CMPMOSI_2, 67 IO_L2P_CMPCLK_2, 69 IO_L1N_M0_CMPMISO_2, 70 IO_L1P_CCLK_2, 71 DONE_2, 72 CMPCS_B_2, 111 IO_L66N_SCP0_0, 112 IO_L66P_SCP1_0, 114 IO_L65N_SCP2_0, 115 IO_L65P_SCP3_0, 116 IO_L64N_SCP4_0, 117 IO_L64P_SCP5_0, 118 IO_L63N_SCP6_0, 119 IO_L63P_SCP7_0, 120 IO_L62N_VREF_0, 121 IO_L62P_0, 123 IO_L37N_GCLK12_0, 124 IO_L37P_GCLK13_0, 126 IO_L36N_GCLK14_0, 127 IO_L36P_GCLK15_0, 131 IO_L35N_GCLK16_0, 132 IO_L35P_GCLK17_0, 133 IO_L34N_GCLK18_0, 134  IO_L34P_GCLK19_0, 137 IO_L4N_0, 138 IO_L4P_0, 139 IO_L3N_0, 140 IO_L3P_0, 141 IO_L2N_0, 142 IO_L2P_0, 143 IO_L1N_VREF_0, 144 IO_L1P_HSWAPEN_0
part B pins: 1 IO_L83N_VREF_3, 2 IO_L83P_3, 5 IO_L52N_3, 6 IO_L52P_3, 7 IO_L51N_3, 8 IO_L51P_3, 9 IO_L50N_3, 10 IO_L50P_3, 11 IO_L49N_3, 12 IO_L49P_3, 14 IO_L44N_GCLK20_3, 15 IO_L44P_GCLK21_3, 16 IO_L43N_GCLK22_IRDY2_3, 17 IO_L43P_GCLK23_3, 21 IO_L42N_GCLK24_3, 22 IO_L42P_GCLK25_TRDY2_3, 23 IO_L41N_GCLK26_3, 24 IO_L41P_GCLK27_3, 26 IO_L37N_3, 27 IO_L37P_3, 29 IO_L36N_3, 30 IO_L36P_3, 32 IO_L2N_3, 33 IO_L2P_3, 34 IO_L1N_VREF_3, 35 IO_L1P_3, 74 IO_L74N_DOUT_BUSY_1, 75 IO_L74P_AWAKE_1, 78 IOL47N_1, 79 IO_L47P_1, 80 IO_L46N_1, 81 IO_L46P_1, 82 IO_L45N_1, 83 IO_L45P_1, 84 IO_L43N_GCLK4_1, 85 IO_L43P_GCLK5_1, 87 IO_L42N_GCLK6_TRDY1_1, 88 IO_L42P_GCLK7_1, 92 IO_L41N_GCLK8_1, 93 IO_L41P_GCLK9_IRDY1_1, 94 IO_L40N_GCLK10_1, 95 IO_L40P_GCLK11_1, 97 IO_L34N_1, 98 IO_L34P_1, 99 IO_L33N_1, 100 IO_L33P_1, 101 IO_L32N_1, 102 IO_L32P_1, 104 IO_L1N_VREF, 105 IO_L1P_1
part C pins: 3 GND, 4 VCCO_3, 13 GND, 18 VCCO_3, 19 VCCINT, 20 VCCAUX, 25 GND, 28 VCCINT, 31 VCCO_3, 36 VCCAUX, 42 VCCO_2, 49 GND, 52 VCCINT, 53 VCCAUX, 54 GND, 63 VCCO_2, 68 GND, 73 SUSPEND, 76 VCCO_1, 77 GND, 86 VCCO_1, 89 VCCINT, 90 VCCAUX, 91 GND, 96 GND, 103 VCCO_1, 106 TDO, 107 TMS, 108 GND, 109 TCK, 110 TDI, 113 GND, 122 VCCO_0, 125 VCCO_0, 128 VCCINT, 129 VCCAUX, 130 GND, 135 VCCO_0, 136 GND

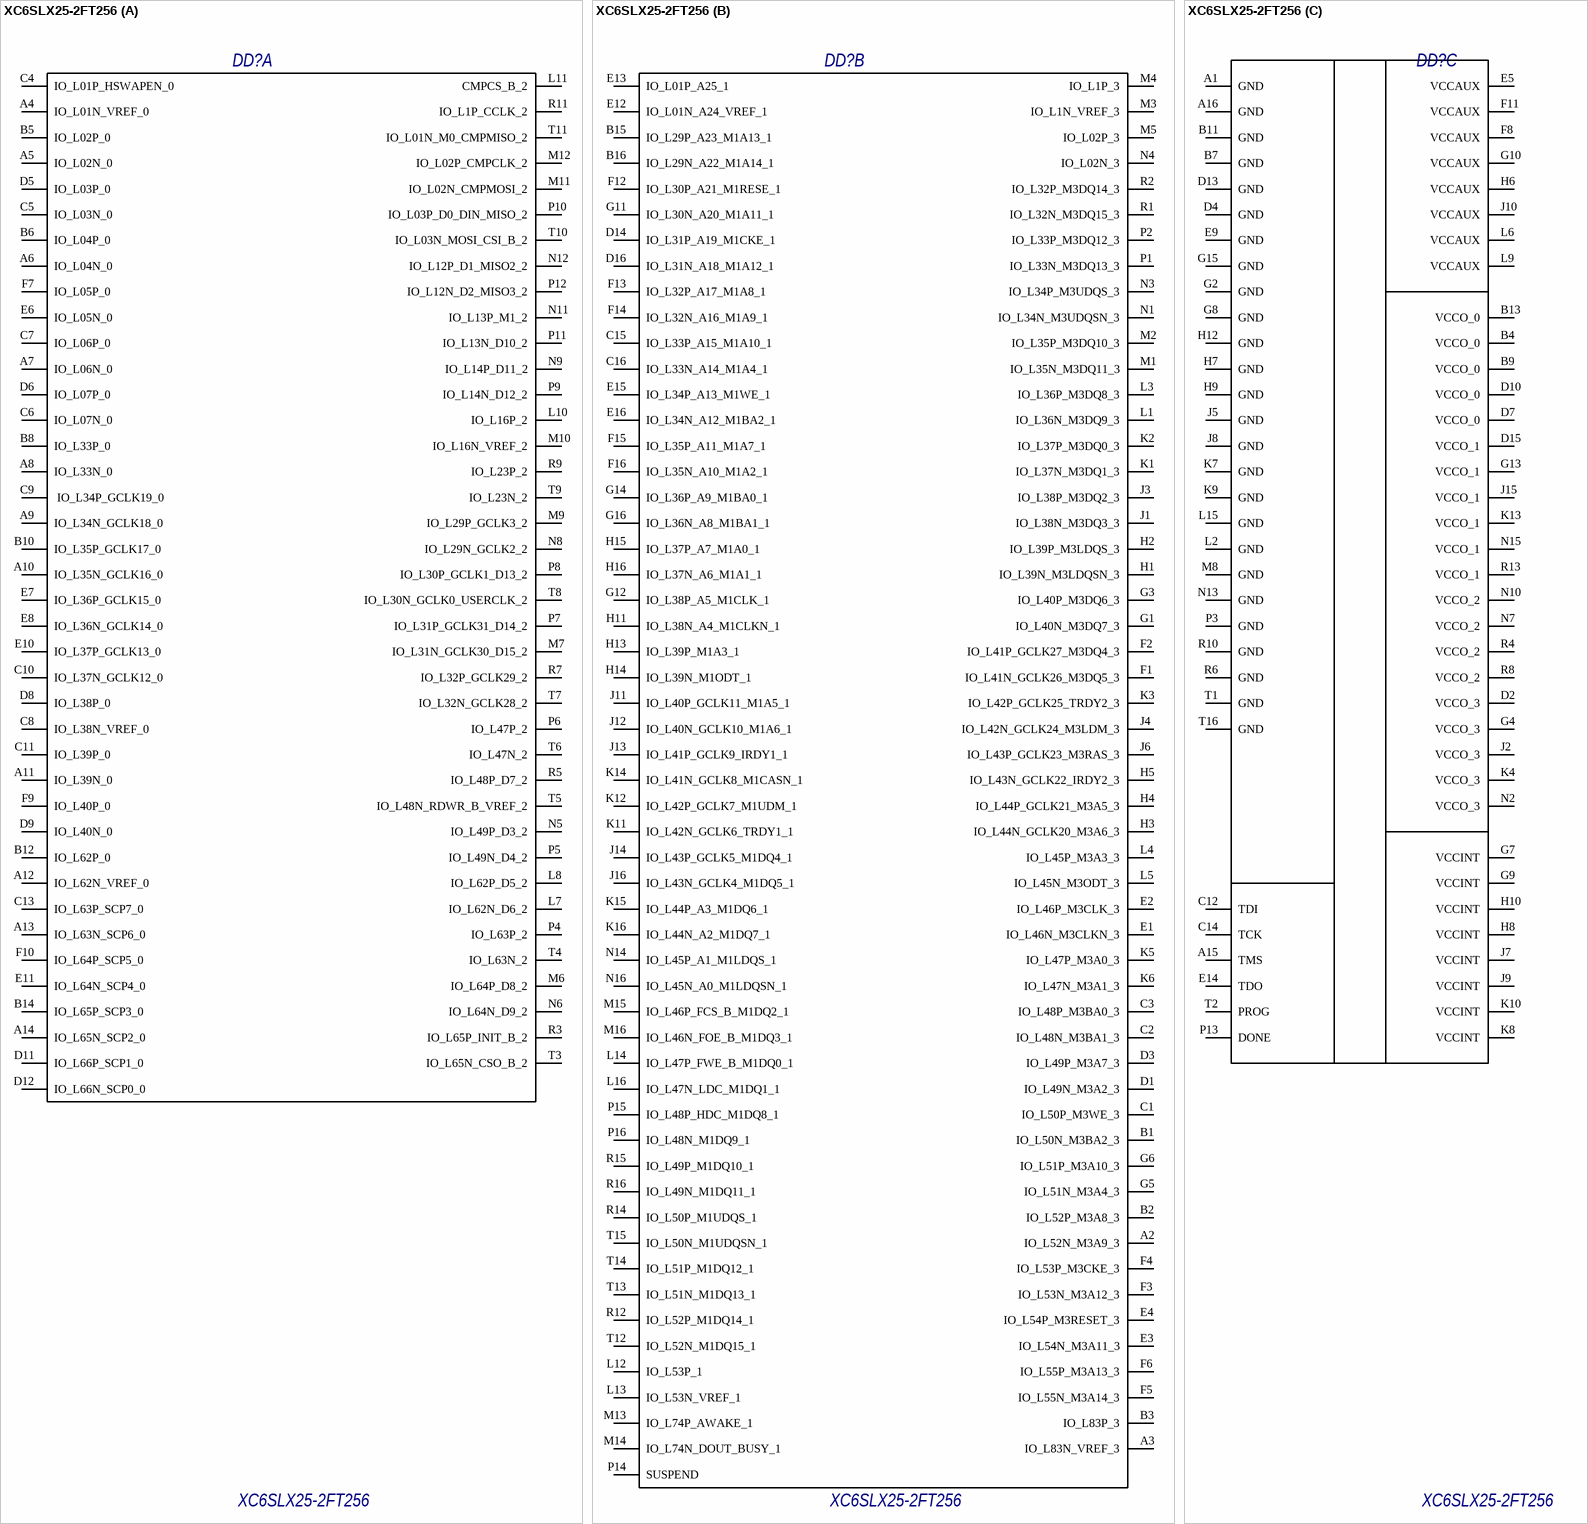
[diagram p15: symbol XC6SLX25-2FT256]